# Altium schematic symbol library dungvh03-CERN_Logic.SchLib: 486 symbols (part 10 of 54)
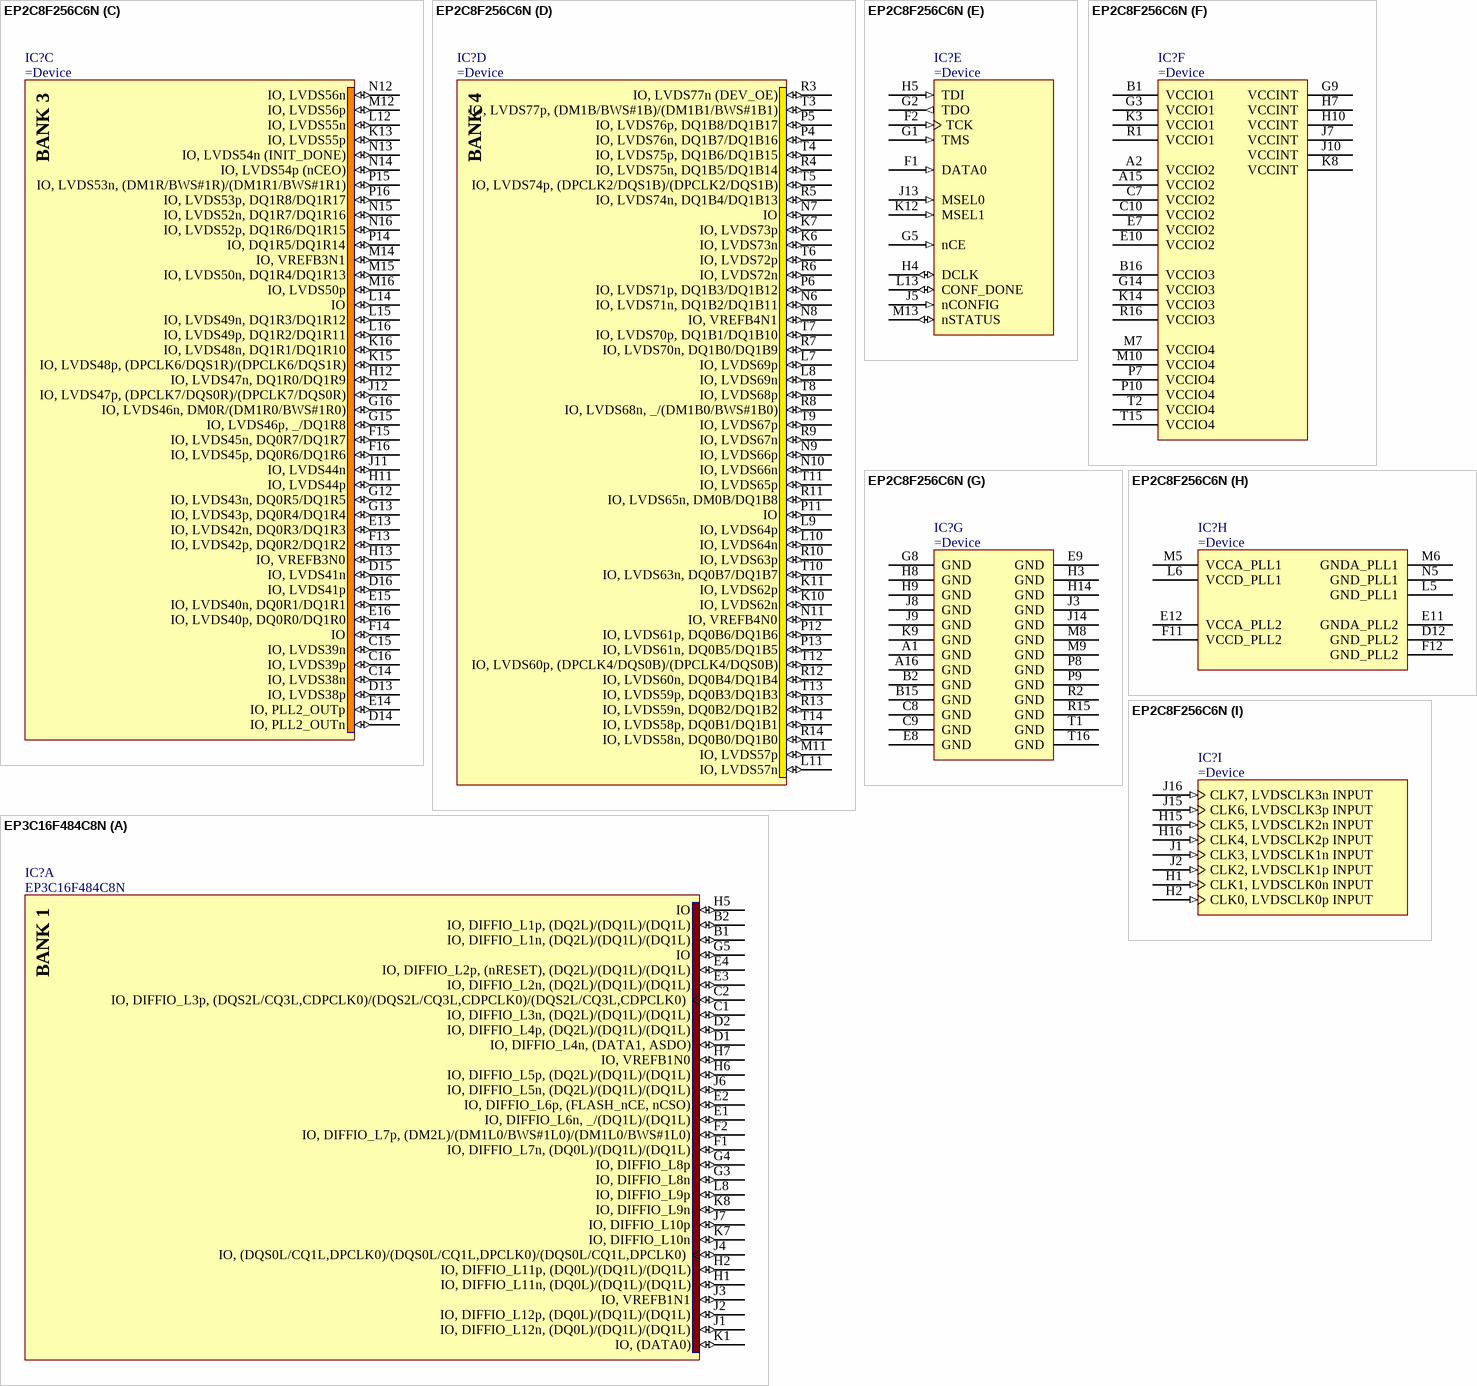
[diagram p270: symbols EP2C8F256C6N to EP3C16F484C8N]

## EP2C8F256C6N
designator IC?
Cyclone II Family, 1.2V FPGA, 182 I/O Pins, 2 PLLs, 256-Pin FBGA, Speed Grade 6, Commercial Grade, Pb-Free
part A pins: C1 IO, LVDS15p (CRC_ERROR) (io), C2 IO, LVDS15n (CLKUSR) (io), C3 IO, (ASDO) (io), D1 IO, LVDS11n, DQ0L2/DQ1L2 (io), D2 IO, LVDS11p (io), D3 IO, LVDS12p, DQ0L0/DQ1L0 (io), D4 IO, LVDS12n, DQ0L1/DQ1L1 (io), D5 IO, LVDS14p (io), E1 IO, LVDS8p, (DPCLK0/DQS0L)/(DPCLK0/DQS0L) (io), E2 IO, LVDS8n, DQ0L5/DQ1L5 (io), E3 IO, LVDS10p, DQ0L3/DQ1L3 (io), E4 IO, LVDS10n, DQ0L4/DQ1L4 (io), E5 IO, LVDS14n (io), F3 IO, VREFB1N0 (io), F4 IO, (nCSO) (io), F5 IO, LVDS13p (io), G4 IO (io), H6 IO, LVDS9n (io), J4 IO, VREFB1N1 (io), J6 IO, LVDS9p (io), K1 IO, LVDS7n, DQ0L6/DQ1L6 (io), K2 IO, LVDS7p, (DPCLK1/DQS1L)/(DPCLK1/DQS1L) (io), K4 IO, LVDS6p, DQ0L7/DQ1L7 (io), K5 IO, LVDS6n, _/DQ1L8 (io), L1 IO, LVDS5p, DM0L/(DM1L0/BWS#1L0) (io), L2 IO, LVDS5n, DQ1L0/DQ1L9 (io), L3 IO, LVDS3n (io), L4 IO, PLL1_OUTp (io), M1 IO, LVDS4p (io), M2 IO, LVDS4n, DQ1L1/DQ1L10 (io), M3 IO, LVDS3p, DQ1L2/DQ1L11 (io), M4 IO, PLL1_OUTn (io), N1 IO, LVDS2p, DQ1L3/DQ1L12 (io), N2 IO, LVDS2n, DQ1L4/DQ1L13 (io), N3 IO, LVDS0p, DQ1L7/DQ1L16 (io), N4 IO, LVDS0n, DQ1L8/DQ1L17 (io), P1 IO, LVDS1p, DQ1L5/DQ1L14 (io), P2 IO, LVDS1n, DQ1L6/DQ1L15 (io), P3 IO, (DM1L/BWS#1L)/(DM1L1/BWS#1L1) (io)
part B pins: A3 IO, LVDS17p, (DM1T/BWS#1T)/(DM1T1/BWS#1T1) (io), A4 IO, LVDS18p, DQ1T8/DQ1T17 (io), A5 IO, LVDS19p, (DPCLK10/DQS1T)/(DPCLK10/DQS1T) (io), A6 IO, LVDS23p (io), A7 IO, LVDS26n, DQ1T0/DQ1T9 (io), A8 IO, LVDS27n (io), A9 IO, LVDS28n (io), A10 IO, LVDS31p (io), A11 IO, LVDS33p, DQ0T7/DQ1T7 (io), A12 IO, LVDS34p, (DPCLK8/DQS0T)/(DPCLK8/DQS0T) (io), A13 IO, LVDS35p, DQ0T4/DQ1T4 (io), A14 IO, LVDS37p, DQ0T0/DQ1T0 (io), B3 IO, LVDS17n (DEV_CLRn) (io), B4 IO, LVDS18n, DQ1T7/DQ1T16 (io), B5 IO, LVDS19n, DQ1T6/DQ1T15 (io), B6 IO, LVDS23n, DQ1T1/DQ1T10 (io), B7 IO, LVDS26p (io), B8 IO, LVDS27p (io), B9 IO, LVDS28p (io), B10 IO, LVDS31n, _/DQ1T8 (io), B11 IO, LVDS33n, DQ0T6/DQ1T6 (io), B12 IO, LVDS34n, DQ0T5/DQ1T5 (io), B13 IO, LVDS35n, DQ0T3/DQ1T3 (io), B14 IO, LVDS37n (io), C4 IO, LVDS20p, DQ1T5/DQ1T14 (io), C5 IO, LVDS20n (io), C6 IO, LVDS21p, DQ1T4/DQ1T13 (io), C11 IO, VREFB2N0 (io), C12 IO, LVDS36p, DQ0T2/DQ1T2 (io), C13 IO, LVDS36n, DQ0T1/DQ1T1 (io), D6 IO, LVDS21n, DQ1T3/DQ1T12 (io), D7 IO, DQ1T2/DQ1T11 (io), D8 IO, VREFB2N1 (io), D9 IO (io), D10 IO, LVDS29p (io), D11 IO, LVDS29n, DM0T/(DM1T0/BWS#1T0) (io), E6 IO, LVDS16p (io), F6 IO, LVDS16n (io), F7 IO, LVDS25n (io), F8 IO, LVDS25p (io), F9 IO, LVDS30p (io), F10 IO, LVDS30n (io), G6 IO, LVDS22n (io), G7 IO, LVDS22p (io), G10 IO, LVDS32n (io), G11 IO, LVDS32p (io)
part C pins: C14 IO, LVDS38n (io), C15 IO, LVDS39n (io), C16 IO, LVDS39p (io), D13 IO, LVDS38p (io), D14 IO, PLL2_OUTn (io), D15 IO, LVDS41n (io), D16 IO, LVDS41p (io), E13 IO, LVDS42n, DQ0R3/DQ1R3 (io), E14 IO, PLL2_OUTp (io), E15 IO, LVDS40n, DQ0R1/DQ1R1 (io), E16 IO, LVDS40p, DQ0R0/DQ1R0 (io), F13 IO, LVDS42p, DQ0R2/DQ1R2 (io), F14 IO (io), F15 IO, LVDS45n, DQ0R7/DQ1R7 (io), F16 IO, LVDS45p, DQ0R6/DQ1R6 (io), G12 IO, LVDS43n, DQ0R5/DQ1R5 (io), G13 IO, LVDS43p, DQ0R4/DQ1R4 (io), G15 IO, LVDS46p, _/DQ1R8 (io), G16 IO, LVDS46n, DM0R/(DM1R0/BWS#1R0) (io), H11 IO, LVDS44p (io), H12 IO, LVDS47n, DQ1R0/DQ1R9 (io), H13 IO, VREFB3N0 (io), J11 IO, LVDS44n (io), J12 IO, LVDS47p, (DPCLK7/DQS0R)/(DPCLK7/DQS0R) (io), K13 IO, LVDS55p (io), K15 IO, LVDS48p, (DPCLK6/DQS1R)/(DPCLK6/DQS1R) (io), K16 IO, LVDS48n, DQ1R1/DQ1R10 (io), L12 IO, LVDS55n (io), L14 IO (io), L15 IO, LVDS49n, DQ1R3/DQ1R12 (io), L16 IO, LVDS49p, DQ1R2/DQ1R11 (io), M12 IO, LVDS56p (io), M14 IO, VREFB3N1 (io), M15 IO, LVDS50n, DQ1R4/DQ1R13 (io), M16 IO, LVDS50p (io), N12 IO, LVDS56n (io), N13 IO, LVDS54n (INIT_DONE) (io), N14 IO, LVDS54p (nCEO) (io), N15 IO, LVDS52n, DQ1R7/DQ1R16 (io), N16 IO, LVDS52p, DQ1R6/DQ1R15 (io), P14 IO, DQ1R5/DQ1R14 (io), P15 IO, LVDS53n, (DM1R/BWS#1R)/(DM1R1/BWS#1R1) (io), P16 IO, LVDS53p, DQ1R8/DQ1R17 (io)
part D pins: K6 IO, LVDS73n (io), K7 IO, LVDS73p (io), K10 IO, LVDS62n (io), K11 IO, LVDS62p (io), L7 IO, LVDS69p (io), L8 IO, LVDS69n (io), L9 IO, LVDS64p (io), L10 IO, LVDS64n (io), L11 IO, LVDS57n (io), M11 IO, LVDS57p (io), N6 IO, LVDS71n, DQ1B2/DQ1B11 (io), N7 IO (io), N8 IO, VREFB4N1 (io), N9 IO, LVDS66p (io), N10 IO, LVDS66n (io), N11 IO, VREFB4N0 (io), P4 IO, LVDS76n, DQ1B7/DQ1B16 (io), P5 IO, LVDS76p, DQ1B8/DQ1B17 (io), P6 IO, LVDS71p, DQ1B3/DQ1B12 (io), P11 IO (io), P12 IO, LVDS61p, DQ0B6/DQ1B6 (io), P13 IO, LVDS61n, DQ0B5/DQ1B5 (io), R3 IO, LVDS77n (DEV_OE) (io), R4 IO, LVDS75n, DQ1B5/DQ1B14 (io), R5 IO, LVDS74n, DQ1B4/DQ1B13 (io), R6 IO, LVDS72n (io), R7 IO, LVDS70n, DQ1B0/DQ1B9 (io), R8 IO, LVDS68n, _/(DM1B0/BWS#1B0) (io), R9 IO, LVDS67n (io), R10 IO, LVDS63p (io), R11 IO, LVDS65n, DM0B/DQ1B8 (io), R12 IO, LVDS60n, DQ0B4/DQ1B4 (io), R13 IO, LVDS59n, DQ0B2/DQ1B2 (io), R14 IO, LVDS58n, DQ0B0/DQ1B0 (io), T3 IO, LVDS77p, (DM1B/BWS#1B)/(DM1B1/BWS#1B1) (io), T4 IO, LVDS75p, DQ1B6/DQ1B15 (io), T5 IO, LVDS74p, (DPCLK2/DQS1B)/(DPCLK2/DQS1B) (io), T6 IO, LVDS72p (io), T7 IO, LVDS70p, DQ1B1/DQ1B10 (io), T8 IO, LVDS68p (io), T9 IO, LVDS67p (io), T10 IO, LVDS63n, DQ0B7/DQ1B7 (io), T11 IO, LVDS65p (io), T12 IO, LVDS60p, (DPCLK4/DQS0B)/(DPCLK4/DQS0B) (io), T13 IO, LVDS59p, DQ0B3/DQ1B3 (io), T14 IO, LVDS58p, DQ0B1/DQ1B1 (io)
part E pins: F1 DATA0 (in), F2 TCK (in), G1 TMS (in), G2 TDO (out), G5 nCE (in), H4 DCLK (io), H5 TDI (in), J5 nCONFIG (in), J13 MSEL0 (in), K12 MSEL1 (in), L13 CONF_DONE (io), M13 nSTATUS (io)
part F pins: A2 VCCIO2 (power), A15 VCCIO2 (power), B1 VCCIO1 (power), B16 VCCIO3 (power), C7 VCCIO2 (power), C10 VCCIO2 (power), E7 VCCIO2 (power), E10 VCCIO2 (power), G3 VCCIO1 (power), G9 VCCINT (power), G14 VCCIO3 (power), H7 VCCINT (power), H10 VCCINT (power), J7 VCCINT (power), J10 VCCINT (power), K3 VCCIO1 (power), K8 VCCINT (power), K14 VCCIO3 (power), M7 VCCIO4 (power), M10 VCCIO4 (power), P7 VCCIO4 (power), P10 VCCIO4 (power), R1 VCCIO1 (power), R16 VCCIO3 (power), T2 VCCIO4 (power), T15 VCCIO4 (power)
part G pins: A1 GND (power), A16 GND (power), B2 GND (power), B15 GND (power), C8 GND (power), C9 GND (power), E8 GND (power), E9 GND (power), G8 GND (power), H3 GND (power), H8 GND (power), H9 GND (power), H14 GND (power), J3 GND (power), J8 GND (power), J9 GND (power), J14 GND (power), K9 GND (power), M8 GND (power), M9 GND (power), P8 GND (power), P9 GND (power), R2 GND (power), R15 GND (power), T1 GND (power), T16 GND (power)
part H pins: D12 GND_PLL2 (power), E11 GNDA_PLL2 (power), E12 VCCA_PLL2 (power), F11 VCCD_PLL2 (power), F12 GND_PLL2 (power), L5 GND_PLL1 (power), L6 VCCD_PLL1 (power), M5 VCCA_PLL1 (power), M6 GNDA_PLL1 (power), N5 GND_PLL1 (power)
part I pins: H1 CLK1, LVDSCLK0n INPUT (in), H2 CLK0, LVDSCLK0p INPUT (in), H15 CLK5, LVDSCLK2n INPUT (in), H16 CLK4, LVDSCLK2p INPUT (in), J1 CLK3, LVDSCLK1n INPUT (in), J2 CLK2, LVDSCLK1p INPUT (in), J15 CLK6, LVDSCLK3p INPUT (in), J16 CLK7, LVDSCLK3n INPUT (in)
part A text: BANK 1
part B text: BANK 2
part C text: BANK 3
part D text: BANK 4

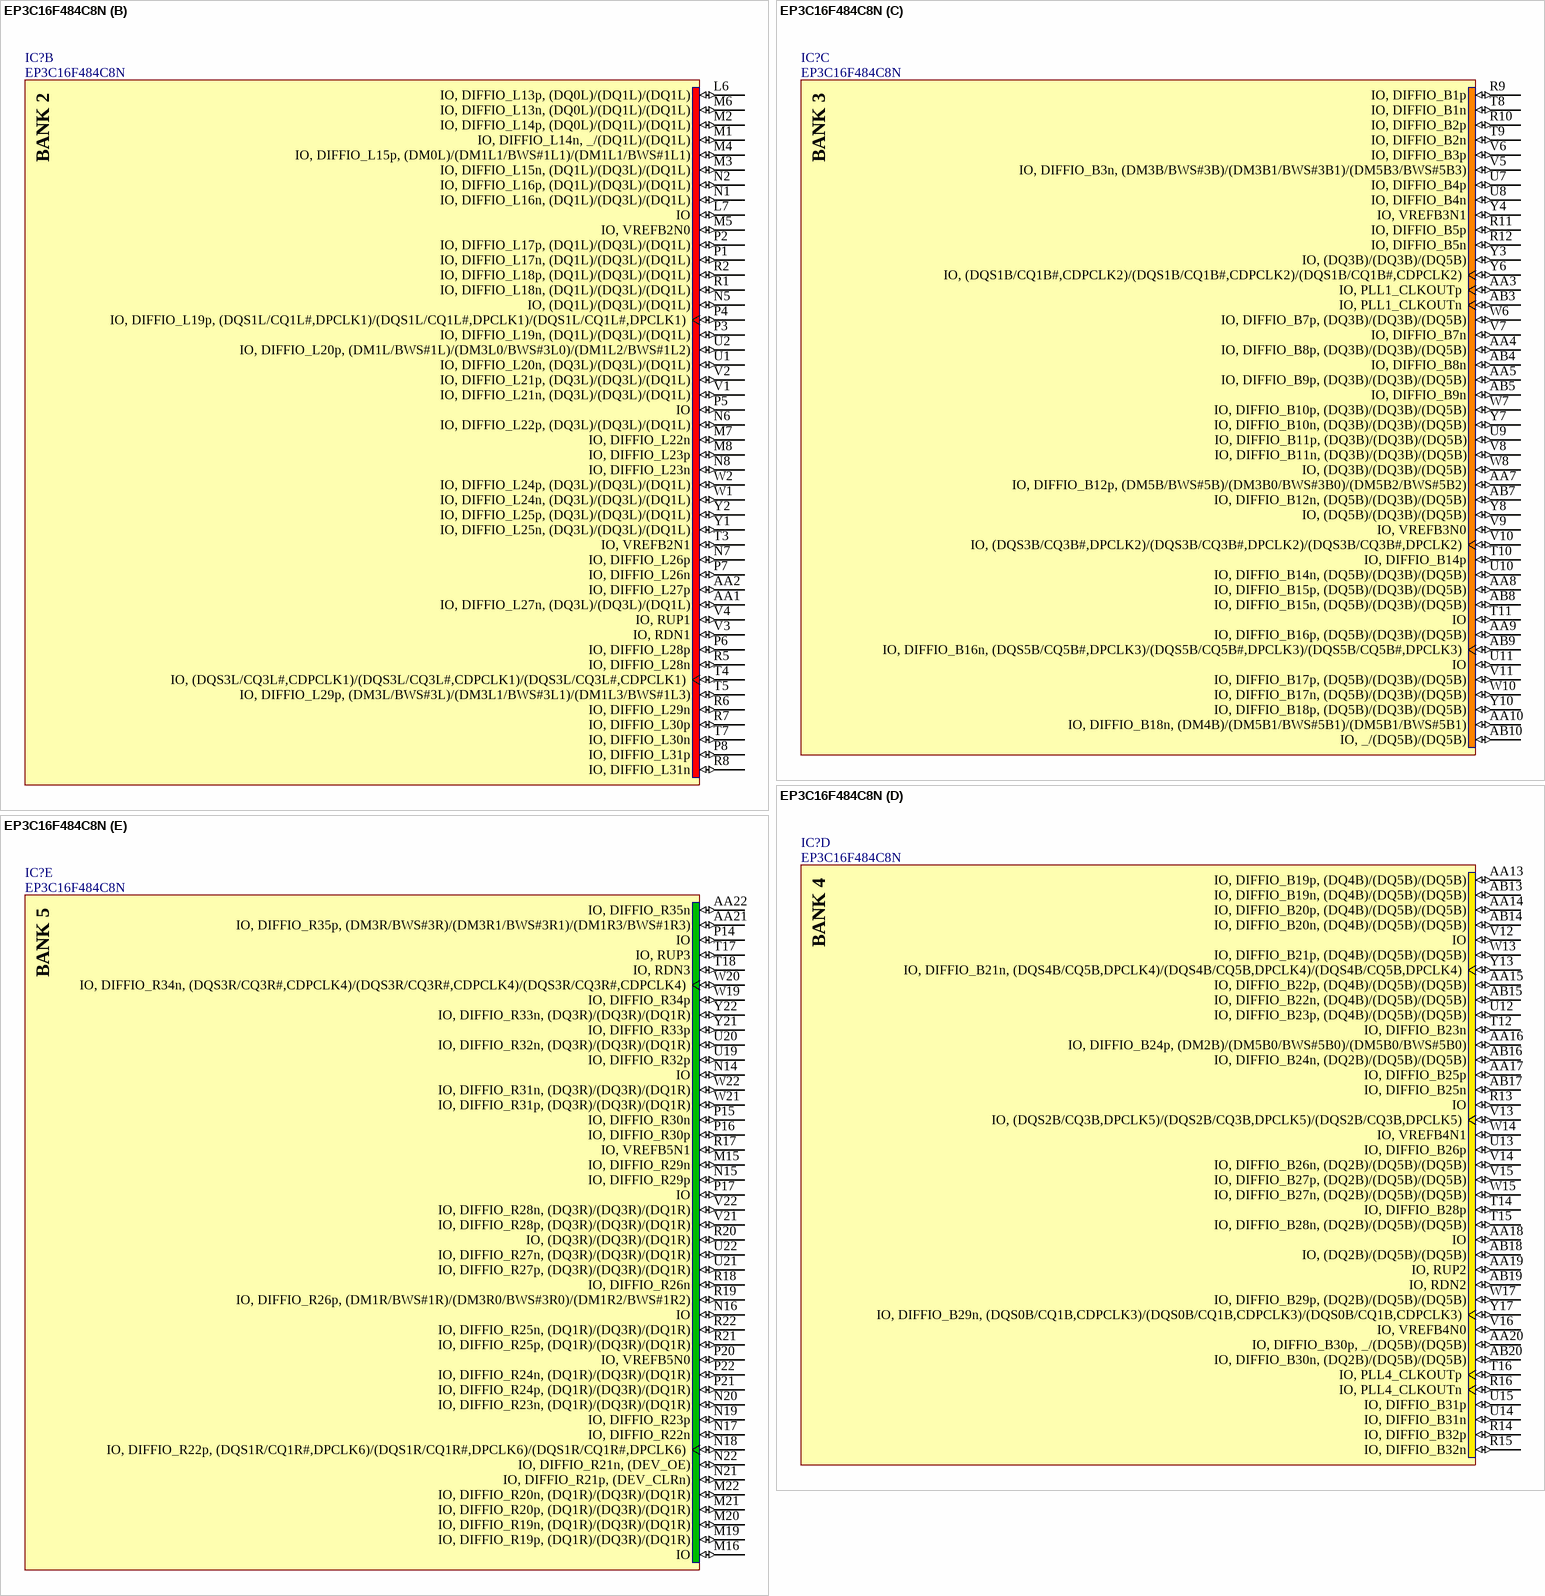
[diagram p53: symbol EP3C16F484C8N]

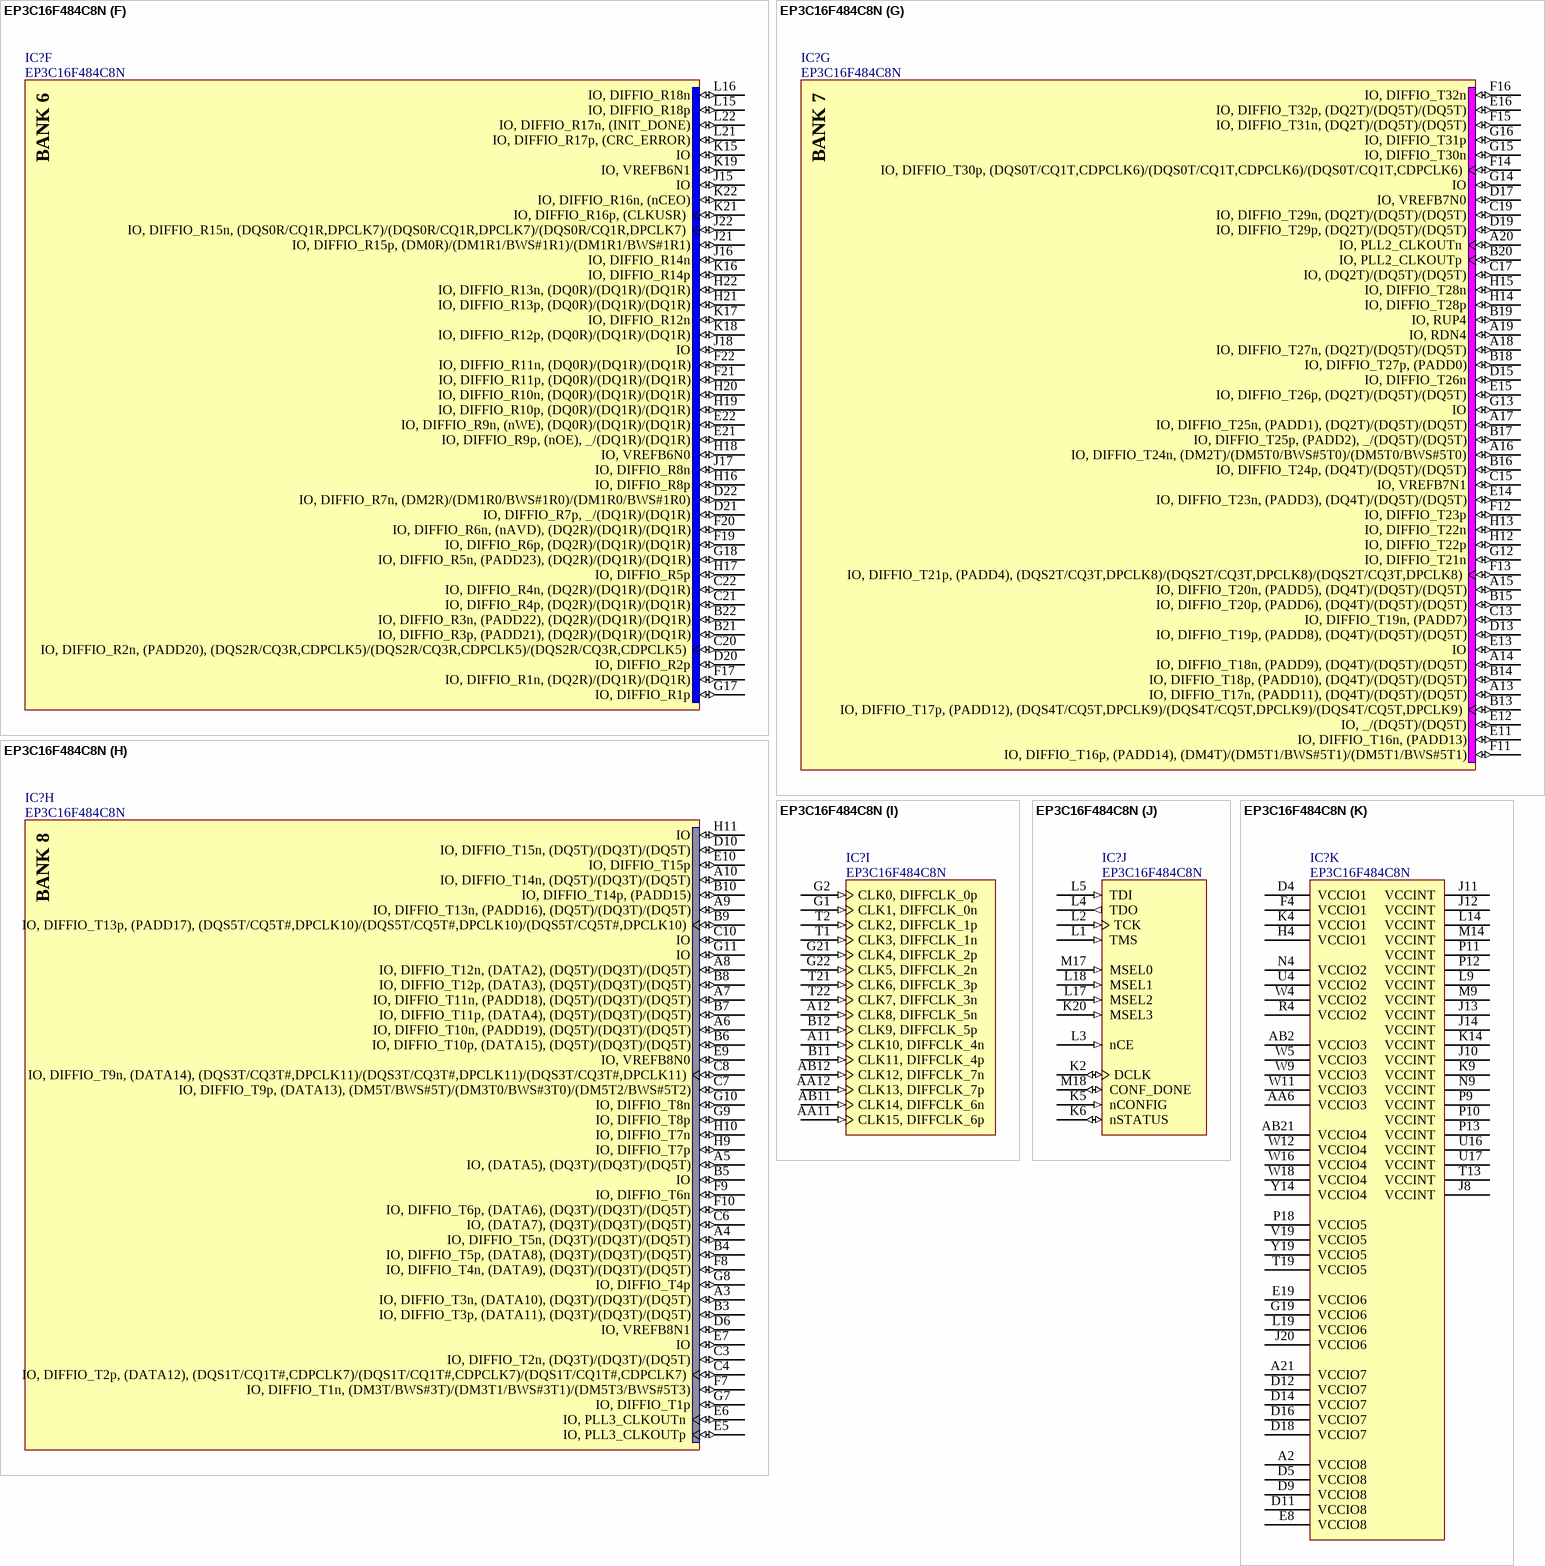
[diagram p54: symbol EP3C16F484C8N]

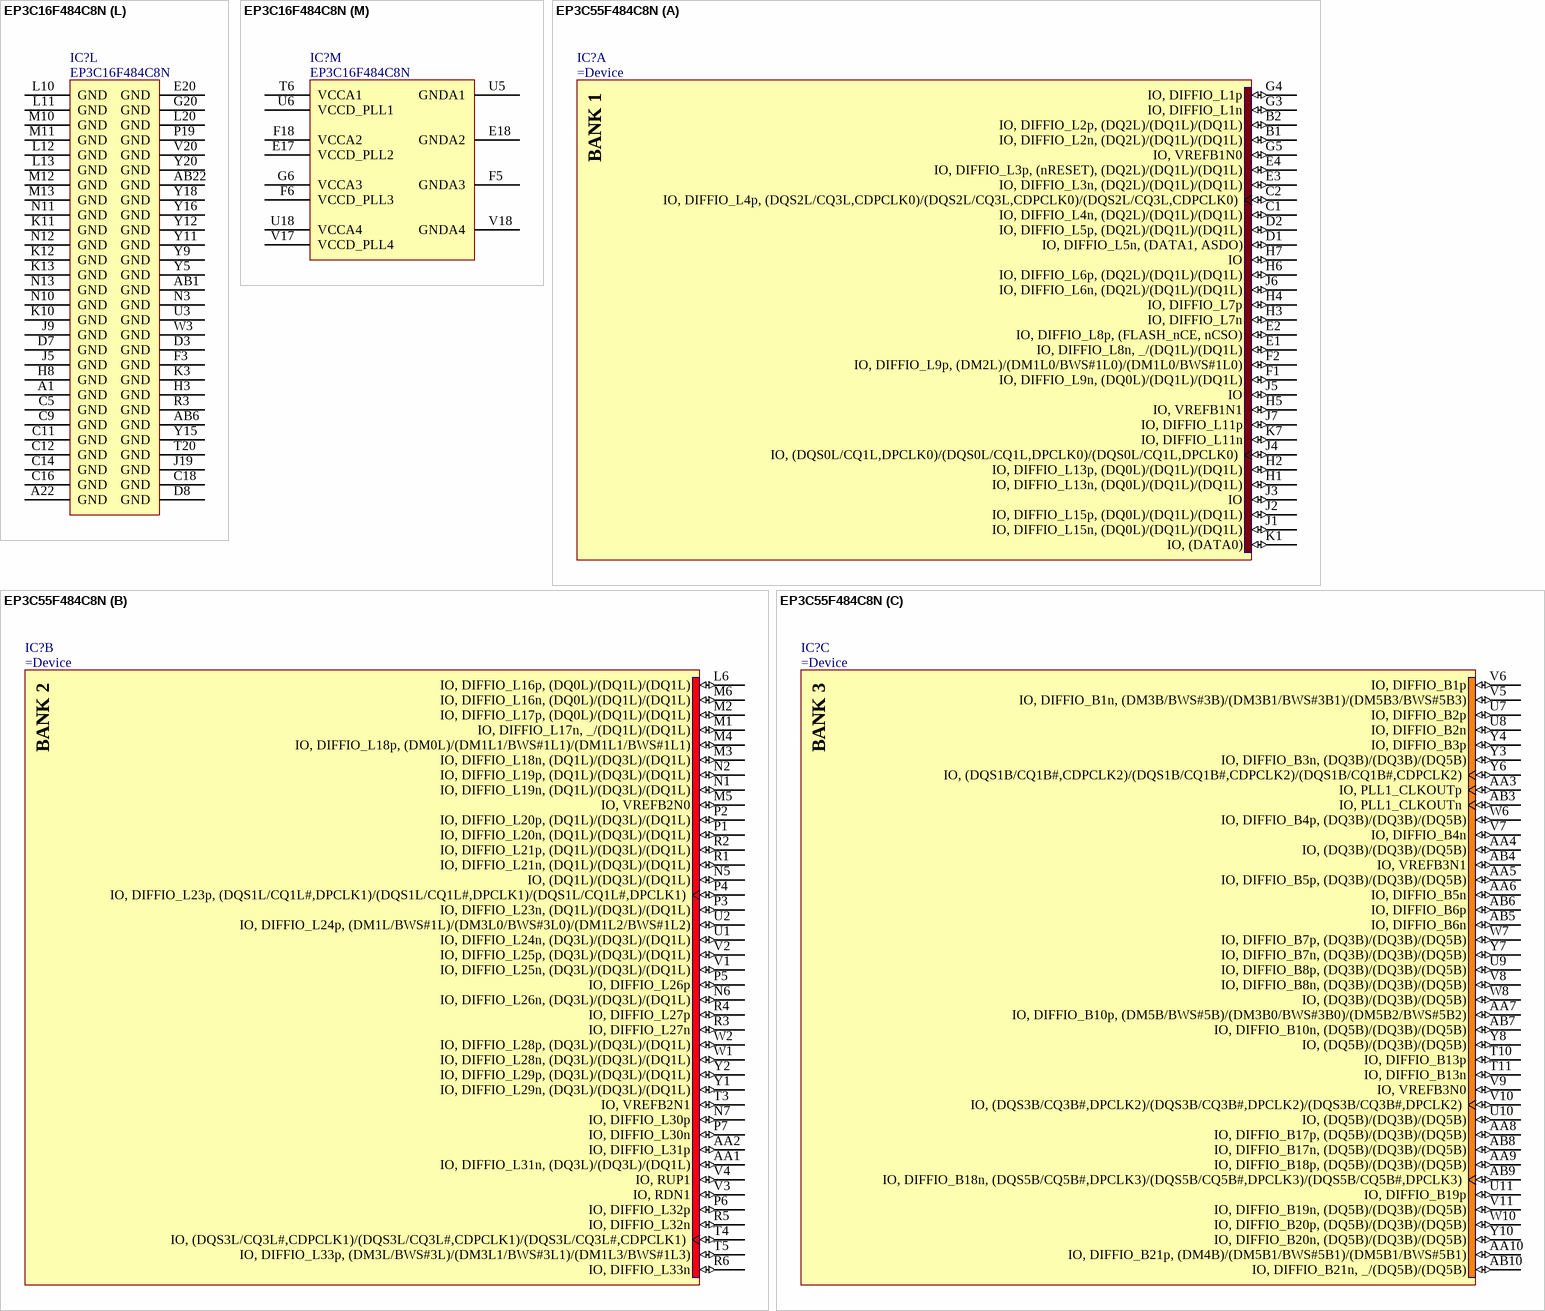
[diagram p55: symbols EP3C16F484C8N to EP3C55F484C8N]

## EP3C16F484C8N
designator IC?
Cyclone III Family FPGA, 346 I/O Pins, 4 PLLs, 484-Pin FBGA, Speed Grade 8, Commercial Grade
part A pins: B1 IO, DIFFIO_L1n, (DQ2L)/(DQ1L)/(DQ1L) (io), B2 IO, DIFFIO_L1p, (DQ2L)/(DQ1L)/(DQ1L) (io), C1 IO, DIFFIO_L3n, (DQ2L)/(DQ1L)/(DQ1L) (io), C2 IO, DIFFIO_L3p, (DQS2L/CQ3L,CDPCLK0)/(DQS2L/CQ3L,CDPCLK0)/(DQS2L/CQ3L,CDPCLK0) (io), D1 IO, DIFFIO_L4n, (DATA1, ASDO) (io), D2 IO, DIFFIO_L4p, (DQ2L)/(DQ1L)/(DQ1L) (io), E1 IO, DIFFIO_L6n, _/(DQ1L)/(DQ1L) (io), E2 IO, DIFFIO_L6p, (FLASH_nCE, nCSO) (io), E3 IO, DIFFIO_L2n, (DQ2L)/(DQ1L)/(DQ1L) (io), E4 IO, DIFFIO_L2p, (nRESET), (DQ2L)/(DQ1L)/(DQ1L) (io), F1 IO, DIFFIO_L7n, (DQ0L)/(DQ1L)/(DQ1L) (io), F2 IO, DIFFIO_L7p, (DM2L)/(DM1L0/BWS#1L0)/(DM1L0/BWS#1L0) (io), G3 IO, DIFFIO_L8n (io), G4 IO, DIFFIO_L8p (io), G5 IO (io), H1 IO, DIFFIO_L11n, (DQ0L)/(DQ1L)/(DQ1L) (io), H2 IO, DIFFIO_L11p, (DQ0L)/(DQ1L)/(DQ1L) (io), H5 IO (io), H6 IO, DIFFIO_L5p, (DQ2L)/(DQ1L)/(DQ1L) (io), H7 IO, VREFB1N0 (io), J1 IO, DIFFIO_L12n, (DQ0L)/(DQ1L)/(DQ1L) (io), J2 IO, DIFFIO_L12p, (DQ0L)/(DQ1L)/(DQ1L) (io), J3 IO, VREFB1N1 (io), J4 IO, (DQS0L/CQ1L,DPCLK0)/(DQS0L/CQ1L,DPCLK0)/(DQS0L/CQ1L,DPCLK0) (io), J6 IO, DIFFIO_L5n, (DQ2L)/(DQ1L)/(DQ1L) (io), J7 IO, DIFFIO_L10p (io), K1 IO, (DATA0) (io), K7 IO, DIFFIO_L10n (io), K8 IO, DIFFIO_L9n (io), L8 IO, DIFFIO_L9p (io)
part B pins: AA1 IO, DIFFIO_L27n, (DQ3L)/(DQ3L)/(DQ1L) (io), AA2 IO, DIFFIO_L27p (io), L6 IO, DIFFIO_L13p, (DQ0L)/(DQ1L)/(DQ1L) (io), L7 IO (io), M1 IO, DIFFIO_L14n, _/(DQ1L)/(DQ1L) (io), M2 IO, DIFFIO_L14p, (DQ0L)/(DQ1L)/(DQ1L) (io), M3 IO, DIFFIO_L15n, (DQ1L)/(DQ3L)/(DQ1L) (io), M4 IO, DIFFIO_L15p, (DM0L)/(DM1L1/BWS#1L1)/(DM1L1/BWS#1L1) (io), M5 IO, VREFB2N0 (io), M6 IO, DIFFIO_L13n, (DQ0L)/(DQ1L)/(DQ1L) (io), M7 IO, DIFFIO_L22n (io), M8 IO, DIFFIO_L23p (io), N1 IO, DIFFIO_L16n, (DQ1L)/(DQ3L)/(DQ1L) (io), N2 IO, DIFFIO_L16p, (DQ1L)/(DQ3L)/(DQ1L) (io), N5 IO, (DQ1L)/(DQ3L)/(DQ1L) (io), N6 IO, DIFFIO_L22p, (DQ3L)/(DQ3L)/(DQ1L) (io), N7 IO, DIFFIO_L26p (io), N8 IO, DIFFIO_L23n (io), P1 IO, DIFFIO_L17n, (DQ1L)/(DQ3L)/(DQ1L) (io), P2 IO, DIFFIO_L17p, (DQ1L)/(DQ3L)/(DQ1L) (io), P3 IO, DIFFIO_L19n, (DQ1L)/(DQ3L)/(DQ1L) (io), P4 IO, DIFFIO_L19p, (DQS1L/CQ1L#,DPCLK1)/(DQS1L/CQ1L#,DPCLK1)/(DQS1L/CQ1L#,DPCLK1) (io), P5 IO (io), P6 IO, DIFFIO_L28p (io), P7 IO, DIFFIO_L26n (io), P8 IO, DIFFIO_L31p (io), R1 IO, DIFFIO_L18n, (DQ1L)/(DQ3L)/(DQ1L) (io), R2 IO, DIFFIO_L18p, (DQ1L)/(DQ3L)/(DQ1L) (io), R5 IO, DIFFIO_L28n (io), R6 IO, DIFFIO_L29n (io), R7 IO, DIFFIO_L30p (io), R8 IO, DIFFIO_L31n (io), T3 IO, VREFB2N1 (io), T4 IO, (DQS3L/CQ3L#,CDPCLK1)/(DQS3L/CQ3L#,CDPCLK1)/(DQS3L/CQ3L#,CDPCLK1) (io), T5 IO, DIFFIO_L29p, (DM3L/BWS#3L)/(DM3L1/BWS#3L1)/(DM1L3/BWS#1L3) (io), T7 IO, DIFFIO_L30n (io), U1 IO, DIFFIO_L20n, (DQ3L)/(DQ3L)/(DQ1L) (io), U2 IO, DIFFIO_L20p, (DM1L/BWS#1L)/(DM3L0/BWS#3L0)/(DM1L2/BWS#1L2) (io), V1 IO, DIFFIO_L21n, (DQ3L)/(DQ3L)/(DQ1L) (io), V2 IO, DIFFIO_L21p, (DQ3L)/(DQ3L)/(DQ1L) (io), V3 IO, RDN1 (io), V4 IO, RUP1 (io), W1 IO, DIFFIO_L24n, (DQ3L)/(DQ3L)/(DQ1L) (io), W2 IO, DIFFIO_L24p, (DQ3L)/(DQ3L)/(DQ1L) (io), Y1 IO, DIFFIO_L25n, (DQ3L)/(DQ3L)/(DQ1L) (io), Y2 IO, DIFFIO_L25p, (DQ3L)/(DQ3L)/(DQ1L) (io)
part C pins: AA3 IO, PLL1_CLKOUTp (io), AA4 IO, DIFFIO_B8p, (DQ3B)/(DQ3B)/(DQ5B) (io), AA5 IO, DIFFIO_B9p, (DQ3B)/(DQ3B)/(DQ5B) (io), AA7 IO, DIFFIO_B12p, (DM5B/BWS#5B)/(DM3B0/BWS#3B0)/(DM5B2/BWS#5B2) (io), AA8 IO, DIFFIO_B15p, (DQ5B)/(DQ3B)/(DQ5B) (io), AA9 IO, DIFFIO_B16p, (DQ5B)/(DQ3B)/(DQ5B) (io), AA10 IO, DIFFIO_B18n, (DM4B)/(DM5B1/BWS#5B1)/(DM5B1/BWS#5B1) (io), AB3 IO, PLL1_CLKOUTn (io), AB4 IO, DIFFIO_B8n (io), AB5 IO, DIFFIO_B9n (io), AB7 IO, DIFFIO_B12n, (DQ5B)/(DQ3B)/(DQ5B) (io), AB8 IO, DIFFIO_B15n, (DQ5B)/(DQ3B)/(DQ5B) (io), AB9 IO, DIFFIO_B16n, (DQS5B/CQ5B#,DPCLK3)/(DQS5B/CQ5B#,DPCLK3)/(DQS5B/CQ5B#,DPCLK3) (io), AB10 IO, _/(DQ5B)/(DQ5B) (io), R9 IO, DIFFIO_B1p (io), R10 IO, DIFFIO_B2p (io), R11 IO, DIFFIO_B5p (io), R12 IO, DIFFIO_B5n (io), T8 IO, DIFFIO_B1n (io), T9 IO, DIFFIO_B2n (io), T10 IO, DIFFIO_B14p (io), T11 IO (io), U7 IO, DIFFIO_B4p (io), U8 IO, DIFFIO_B4n (io), U9 IO, DIFFIO_B11p, (DQ3B)/(DQ3B)/(DQ5B) (io), U10 IO, DIFFIO_B14n, (DQ5B)/(DQ3B)/(DQ5B) (io), U11 IO (io), V5 IO, DIFFIO_B3n, (DM3B/BWS#3B)/(DM3B1/BWS#3B1)/(DM5B3/BWS#5B3) (io), V6 IO, DIFFIO_B3p (io), V7 IO, DIFFIO_B7n (io), V8 IO, DIFFIO_B11n, (DQ3B)/(DQ3B)/(DQ5B) (io), V9 IO, VREFB3N0 (io), V10 IO, (DQS3B/CQ3B#,DPCLK2)/(DQS3B/CQ3B#,DPCLK2)/(DQS3B/CQ3B#,DPCLK2) (io), V11 IO, DIFFIO_B17p, (DQ5B)/(DQ3B)/(DQ5B) (io), W6 IO, DIFFIO_B7p, (DQ3B)/(DQ3B)/(DQ5B) (io), W7 IO, DIFFIO_B10p, (DQ3B)/(DQ3B)/(DQ5B) (io), W8 IO, (DQ3B)/(DQ3B)/(DQ5B) (io), W10 IO, DIFFIO_B17n, (DQ5B)/(DQ3B)/(DQ5B) (io), Y3 IO, (DQ3B)/(DQ3B)/(DQ5B) (io), Y4 IO, VREFB3N1 (io), Y6 IO, (DQS1B/CQ1B#,CDPCLK2)/(DQS1B/CQ1B#,CDPCLK2)/(DQS1B/CQ1B#,CDPCLK2) (io), Y7 IO, DIFFIO_B10n, (DQ3B)/(DQ3B)/(DQ5B) (io), Y8 IO, (DQ5B)/(DQ3B)/(DQ5B) (io), Y10 IO, DIFFIO_B18p, (DQ5B)/(DQ3B)/(DQ5B) (io)
part D pins: AA13 IO, DIFFIO_B19p, (DQ4B)/(DQ5B)/(DQ5B) (io), AA14 IO, DIFFIO_B20p, (DQ4B)/(DQ5B)/(DQ5B) (io), AA15 IO, DIFFIO_B22p, (DQ4B)/(DQ5B)/(DQ5B) (io), AA16 IO, DIFFIO_B24p, (DM2B)/(DM5B0/BWS#5B0)/(DM5B0/BWS#5B0) (io), AA17 IO, DIFFIO_B25p (io), AA18 IO (io), AA19 IO, RUP2 (io), AA20 IO, DIFFIO_B30p, _/(DQ5B)/(DQ5B) (io), AB13 IO, DIFFIO_B19n, (DQ4B)/(DQ5B)/(DQ5B) (io), AB14 IO, DIFFIO_B20n, (DQ4B)/(DQ5B)/(DQ5B) (io), AB15 IO, DIFFIO_B22n, (DQ4B)/(DQ5B)/(DQ5B) (io), AB16 IO, DIFFIO_B24n, (DQ2B)/(DQ5B)/(DQ5B) (io), AB17 IO, DIFFIO_B25n (io), AB18 IO, (DQ2B)/(DQ5B)/(DQ5B) (io), AB19 IO, RDN2 (io), AB20 IO, DIFFIO_B30n, (DQ2B)/(DQ5B)/(DQ5B) (io), R13 IO (io), R14 IO, DIFFIO_B32p (io), R15 IO, DIFFIO_B32n (io), R16 IO, PLL4_CLKOUTn (io), T12 IO, DIFFIO_B23n (io), T14 IO, DIFFIO_B28p (io), T15 IO, DIFFIO_B28n, (DQ2B)/(DQ5B)/(DQ5B) (io), T16 IO, PLL4_CLKOUTp (io), U12 IO, DIFFIO_B23p, (DQ4B)/(DQ5B)/(DQ5B) (io), U13 IO, DIFFIO_B26p (io), U14 IO, DIFFIO_B31n (io), U15 IO, DIFFIO_B31p (io), V12 IO (io), V13 IO, (DQS2B/CQ3B,DPCLK5)/(DQS2B/CQ3B,DPCLK5)/(DQS2B/CQ3B,DPCLK5) (io), V14 IO, DIFFIO_B26n, (DQ2B)/(DQ5B)/(DQ5B) (io), V15 IO, DIFFIO_B27p, (DQ2B)/(DQ5B)/(DQ5B) (io), V16 IO, VREFB4N0 (io), W13 IO, DIFFIO_B21p, (DQ4B)/(DQ5B)/(DQ5B) (io), W14 IO, VREFB4N1 (io), W15 IO, DIFFIO_B27n, (DQ2B)/(DQ5B)/(DQ5B) (io), W17 IO, DIFFIO_B29p, (DQ2B)/(DQ5B)/(DQ5B) (io), Y13 IO, DIFFIO_B21n, (DQS4B/CQ5B,DPCLK4)/(DQS4B/CQ5B,DPCLK4)/(DQS4B/CQ5B,DPCLK4) (io), Y17 IO, DIFFIO_B29n, (DQS0B/CQ1B,CDPCLK3)/(DQS0B/CQ1B,CDPCLK3)/(DQS0B/CQ1B,CDPCLK3) (io)
part E pins: AA21 IO, DIFFIO_R35p, (DM3R/BWS#3R)/(DM3R1/BWS#3R1)/(DM1R3/BWS#1R3) (io), AA22 IO, DIFFIO_R35n (io), M15 IO, DIFFIO_R29n (io), M16 IO (io), M19 IO, DIFFIO_R19p, (DQ1R)/(DQ3R)/(DQ1R) (io), M20 IO, DIFFIO_R19n, (DQ1R)/(DQ3R)/(DQ1R) (io), M21 IO, DIFFIO_R20p, (DQ1R)/(DQ3R)/(DQ1R) (io), M22 IO, DIFFIO_R20n, (DQ1R)/(DQ3R)/(DQ1R) (io), N14 IO (io), N15 IO, DIFFIO_R29p (io), N16 IO (io), N17 IO, DIFFIO_R22n (io), N18 IO, DIFFIO_R22p, (DQS1R/CQ1R#,DPCLK6)/(DQS1R/CQ1R#,DPCLK6)/(DQS1R/CQ1R#,DPCLK6) (io), N19 IO, DIFFIO_R23p (io), N20 IO, DIFFIO_R23n, (DQ1R)/(DQ3R)/(DQ1R) (io), N21 IO, DIFFIO_R21p, (DEV_CLRn) (io), N22 IO, DIFFIO_R21n, (DEV_OE) (io), P14 IO (io), P15 IO, DIFFIO_R30n (io), P16 IO, DIFFIO_R30p (io), P17 IO (io), P20 IO, VREFB5N0 (io), P21 IO, DIFFIO_R24p, (DQ1R)/(DQ3R)/(DQ1R) (io), P22 IO, DIFFIO_R24n, (DQ1R)/(DQ3R)/(DQ1R) (io), R17 IO, VREFB5N1 (io), R18 IO, DIFFIO_R26n (io), R19 IO, DIFFIO_R26p, (DM1R/BWS#1R)/(DM3R0/BWS#3R0)/(DM1R2/BWS#1R2) (io), R20 IO, (DQ3R)/(DQ3R)/(DQ1R) (io), R21 IO, DIFFIO_R25p, (DQ1R)/(DQ3R)/(DQ1R) (io), R22 IO, DIFFIO_R25n, (DQ1R)/(DQ3R)/(DQ1R) (io), T17 IO, RUP3 (io), T18 IO, RDN3 (io), U19 IO, DIFFIO_R32p (io), U20 IO, DIFFIO_R32n, (DQ3R)/(DQ3R)/(DQ1R) (io), U21 IO, DIFFIO_R27p, (DQ3R)/(DQ3R)/(DQ1R) (io), U22 IO, DIFFIO_R27n, (DQ3R)/(DQ3R)/(DQ1R) (io), V21 IO, DIFFIO_R28p, (DQ3R)/(DQ3R)/(DQ1R) (io), V22 IO, DIFFIO_R28n, (DQ3R)/(DQ3R)/(DQ1R) (io), W19 IO, DIFFIO_R34p (io), W20 IO, DIFFIO_R34n, (DQS3R/CQ3R#,CDPCLK4)/(DQS3R/CQ3R#,CDPCLK4)/(DQS3R/CQ3R#,CDPCLK4) (io), W21 IO, DIFFIO_R31p, (DQ3R)/(DQ3R)/(DQ1R) (io), W22 IO, DIFFIO_R31n, (DQ3R)/(DQ3R)/(DQ1R) (io), Y21 IO, DIFFIO_R33p (io), Y22 IO, DIFFIO_R33n, (DQ3R)/(DQ3R)/(DQ1R) (io)
part F pins: B21 IO, DIFFIO_R3p, (PADD21), (DQ2R)/(DQ1R)/(DQ1R) (io), B22 IO, DIFFIO_R3n, (PADD22), (DQ2R)/(DQ1R)/(DQ1R) (io), C20 IO, DIFFIO_R2n, (PADD20), (DQS2R/CQ3R,CDPCLK5)/(DQS2R/CQ3R,CDPCLK5)/(DQS2R/CQ3R,CDPCLK5) (io), C21 IO, DIFFIO_R4p, (DQ2R)/(DQ1R)/(DQ1R) (io), C22 IO, DIFFIO_R4n, (DQ2R)/(DQ1R)/(DQ1R) (io), D20 IO, DIFFIO_R2p (io), D21 IO, DIFFIO_R7p, _/(DQ1R)/(DQ1R) (io), D22 IO, DIFFIO_R7n, (DM2R)/(DM1R0/BWS#1R0)/(DM1R0/BWS#1R0) (io), E21 IO, DIFFIO_R9p, (nOE), _/(DQ1R)/(DQ1R) (io), E22 IO, DIFFIO_R9n, (nWE), (DQ0R)/(DQ1R)/(DQ1R) (io), F17 IO, DIFFIO_R1n, (DQ2R)/(DQ1R)/(DQ1R) (io), F19 IO, DIFFIO_R6p, (DQ2R)/(DQ1R)/(DQ1R) (io), F20 IO, DIFFIO_R6n, (nAVD), (DQ2R)/(DQ1R)/(DQ1R) (io), F21 IO, DIFFIO_R11p, (DQ0R)/(DQ1R)/(DQ1R) (io), F22 IO, DIFFIO_R11n, (DQ0R)/(DQ1R)/(DQ1R) (io), G17 IO, DIFFIO_R1p (io), G18 IO, DIFFIO_R5n, (PADD23), (DQ2R)/(DQ1R)/(DQ1R) (io), H16 IO, DIFFIO_R8p (io), H17 IO, DIFFIO_R5p (io), H18 IO, VREFB6N0 (io), H19 IO, DIFFIO_R10p, (DQ0R)/(DQ1R)/(DQ1R) (io), H20 IO, DIFFIO_R10n, (DQ0R)/(DQ1R)/(DQ1R) (io), H21 IO, DIFFIO_R13p, (DQ0R)/(DQ1R)/(DQ1R) (io), H22 IO, DIFFIO_R13n, (DQ0R)/(DQ1R)/(DQ1R) (io), J15 IO (io), J16 IO, DIFFIO_R14n (io), J17 IO, DIFFIO_R8n (io), J18 IO (io), J21 IO, DIFFIO_R15p, (DM0R)/(DM1R1/BWS#1R1)/(DM1R1/BWS#1R1) (io), J22 IO, DIFFIO_R15n, (DQS0R/CQ1R,DPCLK7)/(DQS0R/CQ1R,DPCLK7)/(DQS0R/CQ1R,DPCLK7) (io), K15 IO (io), K16 IO, DIFFIO_R14p (io), K17 IO, DIFFIO_R12n (io), K18 IO, DIFFIO_R12p, (DQ0R)/(DQ1R)/(DQ1R) (io), K19 IO, VREFB6N1 (io), K21 IO, DIFFIO_R16p, (CLKUSR) (io), K22 IO, DIFFIO_R16n, (nCEO) (io), L15 IO, DIFFIO_R18p (io), L16 IO, DIFFIO_R18n (io), L21 IO, DIFFIO_R17p, (CRC_ERROR) (io), L22 IO, DIFFIO_R17n, (INIT_DONE) (io)
part G pins: A13 IO, DIFFIO_T17n, (PADD11), (DQ4T)/(DQ5T)/(DQ5T) (io), A14 IO, DIFFIO_T18n, (PADD9), (DQ4T)/(DQ5T)/(DQ5T) (io), A15 IO, DIFFIO_T20n, (PADD5), (DQ4T)/(DQ5T)/(DQ5T) (io), A16 IO, DIFFIO_T24n, (DM2T)/(DM5T0/BWS#5T0)/(DM5T0/BWS#5T0) (io), A17 IO, DIFFIO_T25n, (PADD1), (DQ2T)/(DQ5T)/(DQ5T) (io), A18 IO, DIFFIO_T27n, (DQ2T)/(DQ5T)/(DQ5T) (io), A19 IO, RDN4 (io), A20 IO, PLL2_CLKOUTn (io), B13 IO, DIFFIO_T17p, (PADD12), (DQS4T/CQ5T,DPCLK9)/(DQS4T/CQ5T,DPCLK9)/(DQS4T/CQ5T,DPCLK9) (io), B14 IO, DIFFIO_T18p, (PADD10), (DQ4T)/(DQ5T)/(DQ5T) (io), B15 IO, DIFFIO_T20p, (PADD6), (DQ4T)/(DQ5T)/(DQ5T) (io), B16 IO, DIFFIO_T24p, (DQ4T)/(DQ5T)/(DQ5T) (io), B17 IO, DIFFIO_T25p, (PADD2), _/(DQ5T)/(DQ5T) (io), B18 IO, DIFFIO_T27p, (PADD0) (io), B19 IO, RUP4 (io), B20 IO, PLL2_CLKOUTp (io), C13 IO, DIFFIO_T19n, (PADD7) (io), C15 IO, VREFB7N1 (io), C17 IO, (DQ2T)/(DQ5T)/(DQ5T) (io), C19 IO, DIFFIO_T29n, (DQ2T)/(DQ5T)/(DQ5T) (io), D13 IO, DIFFIO_T19p, (PADD8), (DQ4T)/(DQ5T)/(DQ5T) (io), D15 IO, DIFFIO_T26n (io), D17 IO, VREFB7N0 (io), D19 IO, DIFFIO_T29p, (DQ2T)/(DQ5T)/(DQ5T) (io), E11 IO, DIFFIO_T16n, (PADD13) (io), E12 IO, _/(DQ5T)/(DQ5T) (io), E13 IO (io), E14 IO, DIFFIO_T23n, (PADD3), (DQ4T)/(DQ5T)/(DQ5T) (io), E15 IO, DIFFIO_T26p, (DQ2T)/(DQ5T)/(DQ5T) (io), E16 IO, DIFFIO_T32p, (DQ2T)/(DQ5T)/(DQ5T) (io), F11 IO, DIFFIO_T16p, (PADD14), (DM4T)/(DM5T1/BWS#5T1)/(DM5T1/BWS#5T1) (io), F12 IO, DIFFIO_T23p (io), F13 IO, DIFFIO_T21p, (PADD4), (DQS2T/CQ3T,DPCLK8)/(DQS2T/CQ3T,DPCLK8)/(DQS2T/CQ3T,DPCLK8) (io), F14 IO, DIFFIO_T30p, (DQS0T/CQ1T,CDPCLK6)/(DQS0T/CQ1T,CDPCLK6)/(DQS0T/CQ1T,CDPCLK6) (io), F15 IO, DIFFIO_T31n, (DQ2T)/(DQ5T)/(DQ5T) (io), F16 IO, DIFFIO_T32n (io), G12 IO, DIFFIO_T21n (io), G13 IO (io), G14 IO (io), G15 IO, DIFFIO_T30n (io), G16 IO, DIFFIO_T31p (io), H12 IO, DIFFIO_T22p (io), H13 IO, DIFFIO_T22n (io), H14 IO, DIFFIO_T28p (io), H15 IO, DIFFIO_T28n (io)
part H pins: A3 IO, DIFFIO_T3n, (DATA10), (DQ3T)/(DQ3T)/(DQ5T) (io), A4 IO, DIFFIO_T5n, (DQ3T)/(DQ3T)/(DQ5T) (io), A5 IO, (DATA5), (DQ3T)/(DQ3T)/(DQ5T) (io), A6 IO, DIFFIO_T10n, (PADD19), (DQ5T)/(DQ3T)/(DQ5T) (io), A7 IO, DIFFIO_T11n, (PADD18), (DQ5T)/(DQ3T)/(DQ5T) (io), A8 IO, DIFFIO_T12n, (DATA2), (DQ5T)/(DQ3T)/(DQ5T) (io), A9 IO, DIFFIO_T13n, (PADD16), (DQ5T)/(DQ3T)/(DQ5T) (io), A10 IO, DIFFIO_T14n, (DQ5T)/(DQ3T)/(DQ5T) (io), B3 IO, DIFFIO_T3p, (DATA11), (DQ3T)/(DQ3T)/(DQ5T) (io), B4 IO, DIFFIO_T5p, (DATA8), (DQ3T)/(DQ3T)/(DQ5T) (io), B5 IO (io), B6 IO, DIFFIO_T10p, (DATA15), (DQ5T)/(DQ3T)/(DQ5T) (io), B7 IO, DIFFIO_T11p, (DATA4), (DQ5T)/(DQ3T)/(DQ5T) (io), B8 IO, DIFFIO_T12p, (DATA3), (DQ5T)/(DQ3T)/(DQ5T) (io), B9 IO, DIFFIO_T13p, (PADD17), (DQS5T/CQ5T#,DPCLK10)/(DQS5T/CQ5T#,DPCLK10)/(DQS5T/CQ5T#,DPCLK10) (io), B10 IO, DIFFIO_T14p, (PADD15) (io), C3 IO, DIFFIO_T2n, (DQ3T)/(DQ3T)/(DQ5T) (io), C4 IO, DIFFIO_T2p, (DATA12), (DQS1T/CQ1T#,CDPCLK7)/(DQS1T/CQ1T#,CDPCLK7)/(DQS1T/CQ1T#,CDPCLK7) (io), C6 IO, (DATA7), (DQ3T)/(DQ3T)/(DQ5T) (io), C7 IO, DIFFIO_T9p, (DATA13), (DM5T/BWS#5T)/(DM3T0/BWS#3T0)/(DM5T2/BWS#5T2) (io), C8 IO, DIFFIO_T9n, (DATA14), (DQS3T/CQ3T#,DPCLK11)/(DQS3T/CQ3T#,DPCLK11)/(DQS3T/CQ3T#,DPCLK11) (io), C10 IO (io), D6 IO, VREFB8N1 (io), D10 IO, DIFFIO_T15n, (DQ5T)/(DQ3T)/(DQ5T) (io), E5 IO, PLL3_CLKOUTp (io), E6 IO, PLL3_CLKOUTn (io), E7 IO (io), E9 IO, VREFB8N0 (io), E10 IO, DIFFIO_T15p (io), F7 IO, DIFFIO_T1n, (DM3T/BWS#3T)/(DM3T1/BWS#3T1)/(DM5T3/BWS#5T3) (io), F8 IO, DIFFIO_T4n, (DATA9), (DQ3T)/(DQ3T)/(DQ5T) (io), F9 IO, DIFFIO_T6n (io), F10 IO, DIFFIO_T6p, (DATA6), (DQ3T)/(DQ3T)/(DQ5T) (io), G7 IO, DIFFIO_T1p (io), G8 IO, DIFFIO_T4p (io), G9 IO, DIFFIO_T8p (io), G10 IO, DIFFIO_T8n (io), G11 IO (io), H9 IO, DIFFIO_T7p (io), H10 IO, DIFFIO_T7n (io), H11 IO (io)
part I pins: A11 CLK10, DIFFCLK_4n (in), A12 CLK8, DIFFCLK_5n (in), AA11 CLK15, DIFFCLK_6p (in), AA12 CLK13, DIFFCLK_7p (in), AB11 CLK14, DIFFCLK_6n (in), AB12 CLK12, DIFFCLK_7n (in), B11 CLK11, DIFFCLK_4p (in), B12 CLK9, DIFFCLK_5p (in), G1 CLK1, DIFFCLK_0n (in), G2 CLK0, DIFFCLK_0p (in), G21 CLK4, DIFFCLK_2p (in), G22 CLK5, DIFFCLK_2n (in), T1 CLK3, DIFFCLK_1n (in), T2 CLK2, DIFFCLK_1p (in), T21 CLK6, DIFFCLK_3p (in), T22 CLK7, DIFFCLK_3n (in)
part J pins: K2 DCLK (io), K5 nCONFIG (in), K6 nSTATUS (io), K20 MSEL3 (in), L1 TMS (in), L2 TCK (in), L3 nCE (in), L4 TDO (out), L5 TDI (in), L17 MSEL2 (in), L18 MSEL1 (in), M17 MSEL0 (in), M18 CONF_DONE (io)
part K pins: A2 VCCIO8 (power), A21 VCCIO7 (power), AA6 VCCIO3 (power), AB2 VCCIO3 (power), AB21 VCCIO4 (power), D4 VCCIO1 (power), D5 VCCIO8 (power), D9 VCCIO8 (power), D11 VCCIO8 (power), D12 VCCIO7 (power), D14 VCCIO7 (power), D16 VCCIO7 (power), D18 VCCIO7 (power), E8 VCCIO8 (power), E19 VCCIO6 (power), F4 VCCIO1 (power), G19 VCCIO6 (power), H4 VCCIO1 (power), J8 VCCINT (power), J10 VCCINT (power), J11 VCCINT (power), J12 VCCINT (power), J13 VCCINT (power), J14 VCCINT (power), J20 VCCIO6 (power), K4 VCCIO1 (power), K9 VCCINT (power), K14 VCCINT (power), L9 VCCINT (power), L14 VCCINT (power), L19 VCCIO6 (power), M9 VCCINT (power), M14 VCCINT (power), N4 VCCIO2 (power), N9 VCCINT (power), P9 VCCINT (power), P10 VCCINT (power), P11 VCCINT (power), P12 VCCINT (power), P13 VCCINT (power), P18 VCCIO5 (power), R4 VCCIO2 (power), T13 VCCINT (power), T19 VCCIO5 (power), U4 VCCIO2 (power), U16 VCCINT (power), U17 VCCINT (power), V19 VCCIO5 (power), W4 VCCIO2 (power), W5 VCCIO3 (power), W9 VCCIO3 (power), W11 VCCIO3 (power), W12 VCCIO4 (power), W16 VCCIO4 (power), W18 VCCIO4 (power), Y14 VCCIO4 (power), Y19 VCCIO5 (power)
part L pins: A1 GND (power), A22 GND (power), AB1 GND (power), AB6 GND (power), AB22 GND (power), C5 GND (power), C9 GND (power), C11 GND (power), C12 GND (power), C14 GND (power), C16 GND (power), C18 GND (power), D3 GND (power), D7 GND (power), D8 GND (power), E20 GND (power), F3 GND (power), G20 GND (power), H3 GND (power), H8 GND (power), J5 GND (power), J9 GND (power), J19 GND (power), K3 GND (power), K10 GND (power), K11 GND (power), K12 GND (power), K13 GND (power), L10 GND (power), L11 GND (power), L12 GND (power), L13 GND (power), L20 GND (power), M10 GND (power), M11 GND (power), M12 GND (power), M13 GND (power), N3 GND (power), N10 GND (power), N11 GND (power), N12 GND (power), N13 GND (power), P19 GND (power), R3 GND (power), T20 GND (power), U3 GND (power), V20 GND (power), W3 GND (power), Y5 GND (power), Y9 GND (power), Y11 GND (power), Y12 GND (power), Y15 GND (power), Y16 GND (power), Y18 GND (power), Y20 GND (power)
part M pins: E17 VCCD_PLL2 (power), E18 GNDA2 (power), F5 GNDA3 (power), F6 VCCD_PLL3 (power), F18 VCCA2 (power), G6 VCCA3 (power), T6 VCCA1 (power), U5 GNDA1 (power), U6 VCCD_PLL1 (power), U18 VCCA4 (power), V17 VCCD_PLL4 (power), V18 GNDA4 (power)
part A text: BANK 1
part B text: BANK 2
part C text: BANK 3
part D text: BANK 4
part E text: BANK 5
part F text: BANK 6
part G text: BANK 7
part H text: BANK 8

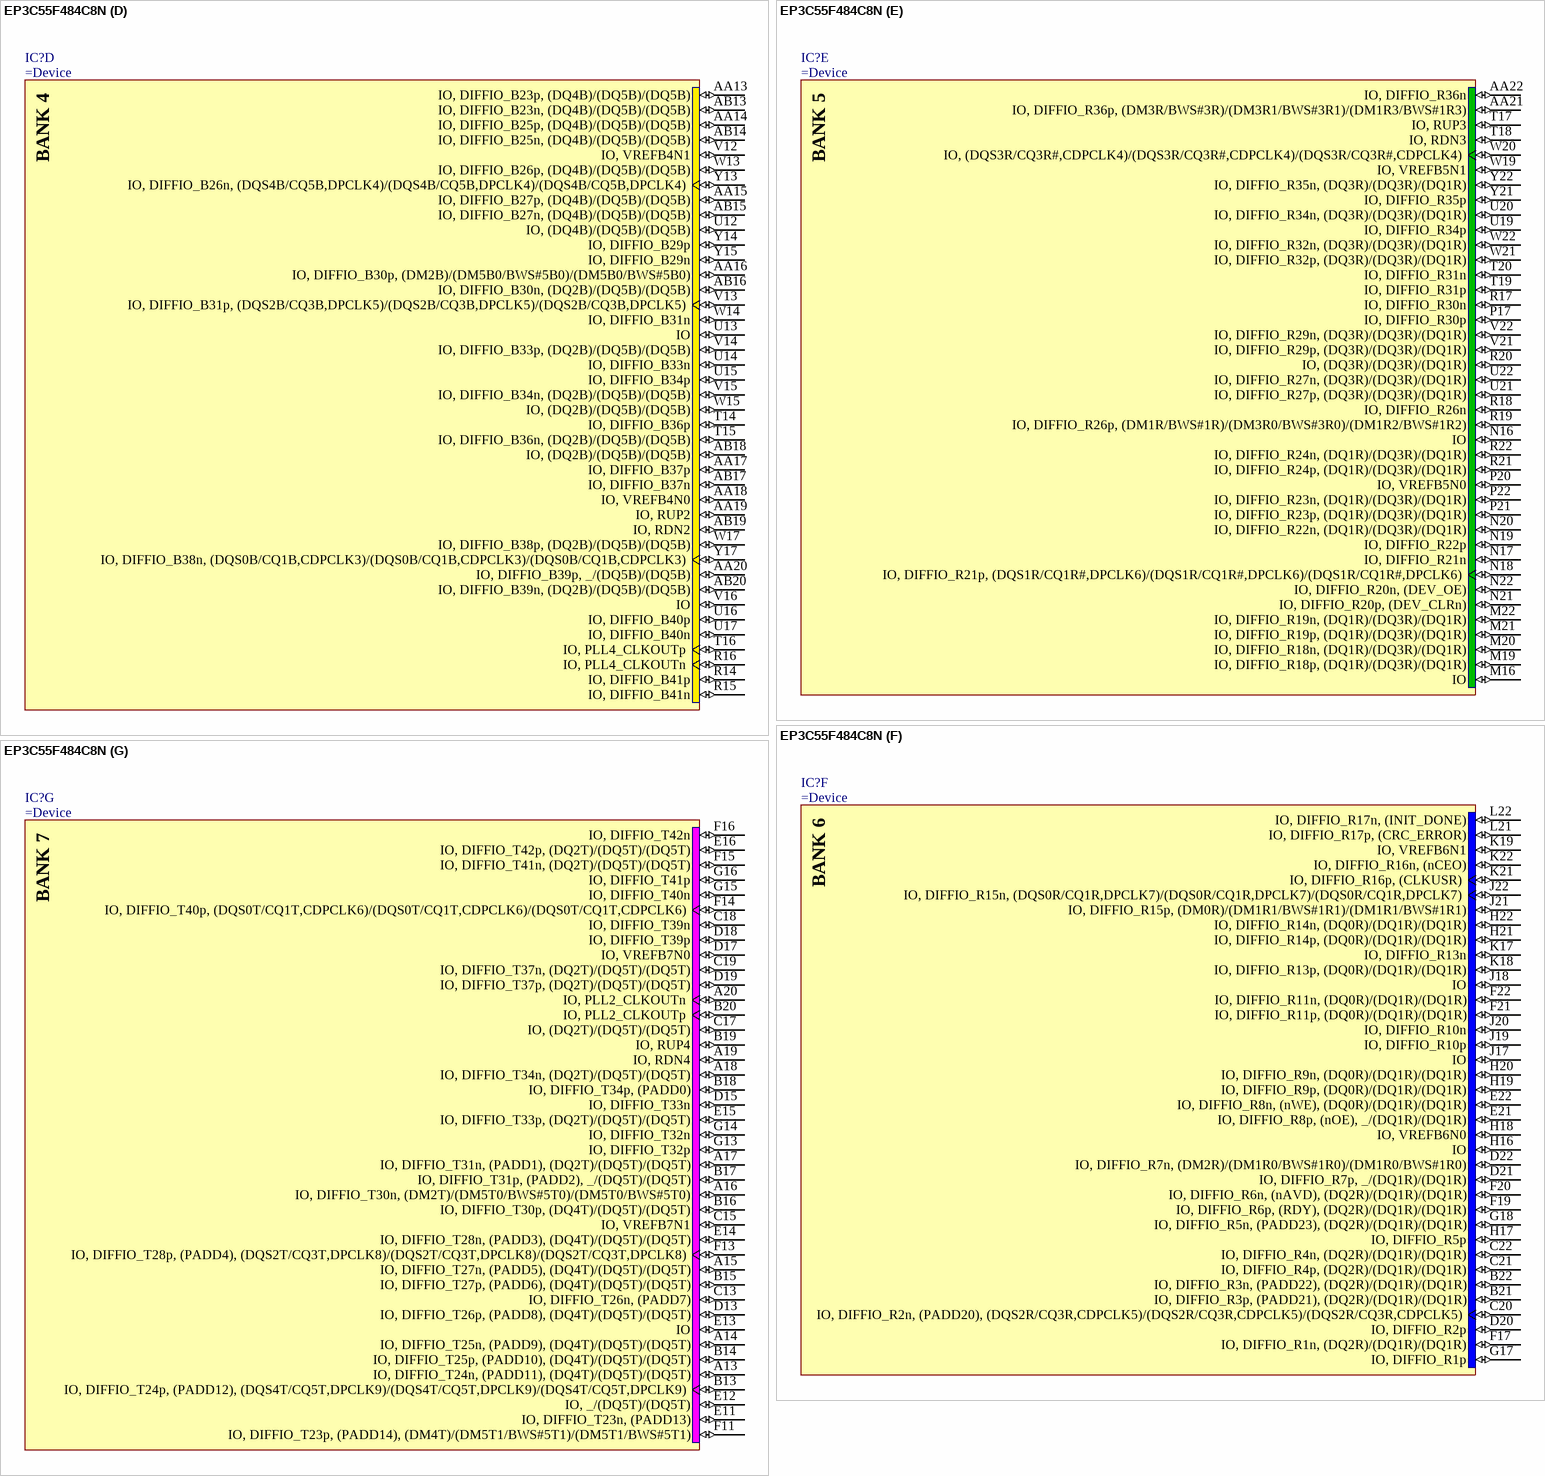
[diagram p56: symbol EP3C55F484C8N]

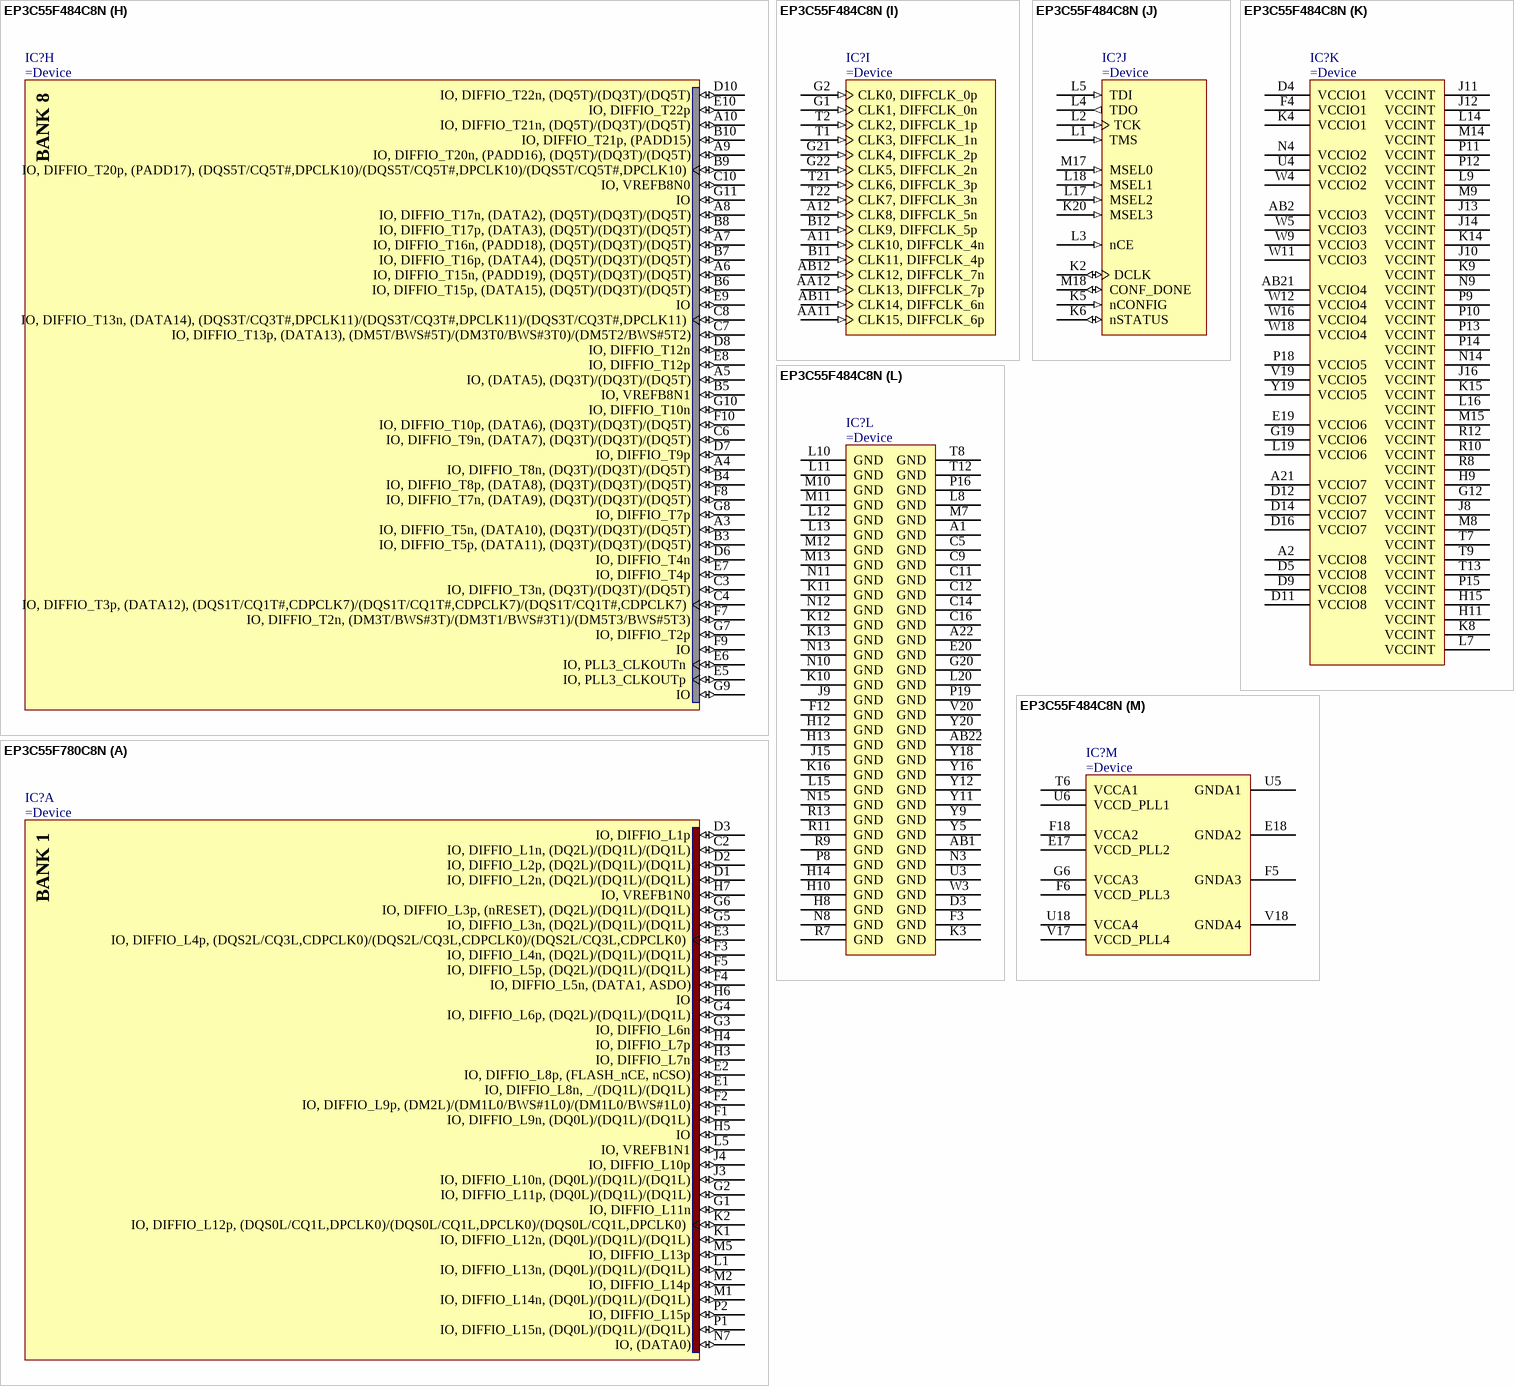
[diagram p57: symbols EP3C55F484C8N to EP3C55F780C8N]

## EP3C55F484C8N
designator IC?
Cyclone III Family FPGA, 377 I/O Pins, 4 PLLs, 484-Pin FBGA, Speed Grade 8, Commercial Grade
part A pins: B1 IO, DIFFIO_L2n, (DQ2L)/(DQ1L)/(DQ1L) (io), B2 IO, DIFFIO_L2p, (DQ2L)/(DQ1L)/(DQ1L) (io), C1 IO, DIFFIO_L4n, (DQ2L)/(DQ1L)/(DQ1L) (io), C2 IO, DIFFIO_L4p, (DQS2L/CQ3L,CDPCLK0)/(DQS2L/CQ3L,CDPCLK0)/(DQS2L/CQ3L,CDPCLK0) (io), D1 IO, DIFFIO_L5n, (DATA1, ASDO) (io), D2 IO, DIFFIO_L5p, (DQ2L)/(DQ1L)/(DQ1L) (io), E1 IO, DIFFIO_L8n, _/(DQ1L)/(DQ1L) (io), E2 IO, DIFFIO_L8p, (FLASH_nCE, nCSO) (io), E3 IO, DIFFIO_L3n, (DQ2L)/(DQ1L)/(DQ1L) (io), E4 IO, DIFFIO_L3p, (nRESET), (DQ2L)/(DQ1L)/(DQ1L) (io), F1 IO, DIFFIO_L9n, (DQ0L)/(DQ1L)/(DQ1L) (io), F2 IO, DIFFIO_L9p, (DM2L)/(DM1L0/BWS#1L0)/(DM1L0/BWS#1L0) (io), G3 IO, DIFFIO_L1n (io), G4 IO, DIFFIO_L1p (io), G5 IO, VREFB1N0 (io), H1 IO, DIFFIO_L13n, (DQ0L)/(DQ1L)/(DQ1L) (io), H2 IO, DIFFIO_L13p, (DQ0L)/(DQ1L)/(DQ1L) (io), H3 IO, DIFFIO_L7n (io), H4 IO, DIFFIO_L7p (io), H5 IO, VREFB1N1 (io), H6 IO, DIFFIO_L6p, (DQ2L)/(DQ1L)/(DQ1L) (io), H7 IO (io), J1 IO, DIFFIO_L15n, (DQ0L)/(DQ1L)/(DQ1L) (io), J2 IO, DIFFIO_L15p, (DQ0L)/(DQ1L)/(DQ1L) (io), J3 IO (io), J4 IO, (DQS0L/CQ1L,DPCLK0)/(DQS0L/CQ1L,DPCLK0)/(DQS0L/CQ1L,DPCLK0) (io), J5 IO (io), J6 IO, DIFFIO_L6n, (DQ2L)/(DQ1L)/(DQ1L) (io), J7 IO, DIFFIO_L11p (io), K1 IO, (DATA0) (io), K7 IO, DIFFIO_L11n (io)
part B pins: AA1 IO, DIFFIO_L31n, (DQ3L)/(DQ3L)/(DQ1L) (io), AA2 IO, DIFFIO_L31p (io), L6 IO, DIFFIO_L16p, (DQ0L)/(DQ1L)/(DQ1L) (io), M1 IO, DIFFIO_L17n, _/(DQ1L)/(DQ1L) (io), M2 IO, DIFFIO_L17p, (DQ0L)/(DQ1L)/(DQ1L) (io), M3 IO, DIFFIO_L18n, (DQ1L)/(DQ3L)/(DQ1L) (io), M4 IO, DIFFIO_L18p, (DM0L)/(DM1L1/BWS#1L1)/(DM1L1/BWS#1L1) (io), M5 IO, VREFB2N0 (io), M6 IO, DIFFIO_L16n, (DQ0L)/(DQ1L)/(DQ1L) (io), N1 IO, DIFFIO_L19n, (DQ1L)/(DQ3L)/(DQ1L) (io), N2 IO, DIFFIO_L19p, (DQ1L)/(DQ3L)/(DQ1L) (io), N5 IO, (DQ1L)/(DQ3L)/(DQ1L) (io), N6 IO, DIFFIO_L26n, (DQ3L)/(DQ3L)/(DQ1L) (io), N7 IO, DIFFIO_L30p (io), P1 IO, DIFFIO_L20n, (DQ1L)/(DQ3L)/(DQ1L) (io), P2 IO, DIFFIO_L20p, (DQ1L)/(DQ3L)/(DQ1L) (io), P3 IO, DIFFIO_L23n, (DQ1L)/(DQ3L)/(DQ1L) (io), P4 IO, DIFFIO_L23p, (DQS1L/CQ1L#,DPCLK1)/(DQS1L/CQ1L#,DPCLK1)/(DQS1L/CQ1L#,DPCLK1) (io), P5 IO, DIFFIO_L26p (io), P6 IO, DIFFIO_L32p (io), P7 IO, DIFFIO_L30n (io), R1 IO, DIFFIO_L21n, (DQ1L)/(DQ3L)/(DQ1L) (io), R2 IO, DIFFIO_L21p, (DQ1L)/(DQ3L)/(DQ1L) (io), R3 IO, DIFFIO_L27n (io), R4 IO, DIFFIO_L27p (io), R5 IO, DIFFIO_L32n (io), R6 IO, DIFFIO_L33n (io), T3 IO, VREFB2N1 (io), T4 IO, (DQS3L/CQ3L#,CDPCLK1)/(DQS3L/CQ3L#,CDPCLK1)/(DQS3L/CQ3L#,CDPCLK1) (io), T5 IO, DIFFIO_L33p, (DM3L/BWS#3L)/(DM3L1/BWS#3L1)/(DM1L3/BWS#1L3) (io), U1 IO, DIFFIO_L24n, (DQ3L)/(DQ3L)/(DQ1L) (io), U2 IO, DIFFIO_L24p, (DM1L/BWS#1L)/(DM3L0/BWS#3L0)/(DM1L2/BWS#1L2) (io), V1 IO, DIFFIO_L25n, (DQ3L)/(DQ3L)/(DQ1L) (io), V2 IO, DIFFIO_L25p, (DQ3L)/(DQ3L)/(DQ1L) (io), V3 IO, RDN1 (io), V4 IO, RUP1 (io), W1 IO, DIFFIO_L28n, (DQ3L)/(DQ3L)/(DQ1L) (io), W2 IO, DIFFIO_L28p, (DQ3L)/(DQ3L)/(DQ1L) (io), Y1 IO, DIFFIO_L29n, (DQ3L)/(DQ3L)/(DQ1L) (io), Y2 IO, DIFFIO_L29p, (DQ3L)/(DQ3L)/(DQ1L) (io)
part C pins: AA3 IO, PLL1_CLKOUTp (io), AA4 IO, (DQ3B)/(DQ3B)/(DQ5B) (io), AA5 IO, DIFFIO_B5p, (DQ3B)/(DQ3B)/(DQ5B) (io), AA6 IO, DIFFIO_B5n (io), AA7 IO, DIFFIO_B10p, (DM5B/BWS#5B)/(DM3B0/BWS#3B0)/(DM5B2/BWS#5B2) (io), AA8 IO, DIFFIO_B17p, (DQ5B)/(DQ3B)/(DQ5B) (io), AA9 IO, DIFFIO_B18p, (DQ5B)/(DQ3B)/(DQ5B) (io), AA10 IO, DIFFIO_B21p, (DM4B)/(DM5B1/BWS#5B1)/(DM5B1/BWS#5B1) (io), AB3 IO, PLL1_CLKOUTn (io), AB4 IO, VREFB3N1 (io), AB5 IO, DIFFIO_B6n (io), AB6 IO, DIFFIO_B6p (io), AB7 IO, DIFFIO_B10n, (DQ5B)/(DQ3B)/(DQ5B) (io), AB8 IO, DIFFIO_B17n, (DQ5B)/(DQ3B)/(DQ5B) (io), AB9 IO, DIFFIO_B18n, (DQS5B/CQ5B#,DPCLK3)/(DQS5B/CQ5B#,DPCLK3)/(DQS5B/CQ5B#,DPCLK3) (io), AB10 IO, DIFFIO_B21n, _/(DQ5B)/(DQ5B) (io), T10 IO, DIFFIO_B13p (io), T11 IO, DIFFIO_B13n (io), U7 IO, DIFFIO_B2p (io), U8 IO, DIFFIO_B2n (io), U9 IO, DIFFIO_B8p, (DQ3B)/(DQ3B)/(DQ5B) (io), U10 IO, (DQ5B)/(DQ3B)/(DQ5B) (io), U11 IO, DIFFIO_B19p (io), V5 IO, DIFFIO_B1n, (DM3B/BWS#3B)/(DM3B1/BWS#3B1)/(DM5B3/BWS#5B3) (io), V6 IO, DIFFIO_B1p (io), V7 IO, DIFFIO_B4n (io), V8 IO, DIFFIO_B8n, (DQ3B)/(DQ3B)/(DQ5B) (io), V9 IO, VREFB3N0 (io), V10 IO, (DQS3B/CQ3B#,DPCLK2)/(DQS3B/CQ3B#,DPCLK2)/(DQS3B/CQ3B#,DPCLK2) (io), V11 IO, DIFFIO_B19n, (DQ5B)/(DQ3B)/(DQ5B) (io), W6 IO, DIFFIO_B4p, (DQ3B)/(DQ3B)/(DQ5B) (io), W7 IO, DIFFIO_B7p, (DQ3B)/(DQ3B)/(DQ5B) (io), W8 IO, (DQ3B)/(DQ3B)/(DQ5B) (io), W10 IO, DIFFIO_B20p, (DQ5B)/(DQ3B)/(DQ5B) (io), Y3 IO, DIFFIO_B3n, (DQ3B)/(DQ3B)/(DQ5B) (io), Y4 IO, DIFFIO_B3p (io), Y6 IO, (DQS1B/CQ1B#,CDPCLK2)/(DQS1B/CQ1B#,CDPCLK2)/(DQS1B/CQ1B#,CDPCLK2) (io), Y7 IO, DIFFIO_B7n, (DQ3B)/(DQ3B)/(DQ5B) (io), Y8 IO, (DQ5B)/(DQ3B)/(DQ5B) (io), Y10 IO, DIFFIO_B20n, (DQ5B)/(DQ3B)/(DQ5B) (io)
part D pins: AA13 IO, DIFFIO_B23p, (DQ4B)/(DQ5B)/(DQ5B) (io), AA14 IO, DIFFIO_B25p, (DQ4B)/(DQ5B)/(DQ5B) (io), AA15 IO, DIFFIO_B27p, (DQ4B)/(DQ5B)/(DQ5B) (io), AA16 IO, DIFFIO_B30p, (DM2B)/(DM5B0/BWS#5B0)/(DM5B0/BWS#5B0) (io), AA17 IO, DIFFIO_B37p (io), AA18 IO, VREFB4N0 (io), AA19 IO, RUP2 (io), AA20 IO, DIFFIO_B39p, _/(DQ5B)/(DQ5B) (io), AB13 IO, DIFFIO_B23n, (DQ4B)/(DQ5B)/(DQ5B) (io), AB14 IO, DIFFIO_B25n, (DQ4B)/(DQ5B)/(DQ5B) (io), AB15 IO, DIFFIO_B27n, (DQ4B)/(DQ5B)/(DQ5B) (io), AB16 IO, DIFFIO_B30n, (DQ2B)/(DQ5B)/(DQ5B) (io), AB17 IO, DIFFIO_B37n (io), AB18 IO, (DQ2B)/(DQ5B)/(DQ5B) (io), AB19 IO, RDN2 (io), AB20 IO, DIFFIO_B39n, (DQ2B)/(DQ5B)/(DQ5B) (io), R14 IO, DIFFIO_B41p (io), R15 IO, DIFFIO_B41n (io), R16 IO, PLL4_CLKOUTn (io), T14 IO, DIFFIO_B36p (io), T15 IO, DIFFIO_B36n, (DQ2B)/(DQ5B)/(DQ5B) (io), T16 IO, PLL4_CLKOUTp (io), U12 IO, (DQ4B)/(DQ5B)/(DQ5B) (io), U13 IO (io), U14 IO, DIFFIO_B33n (io), U15 IO, DIFFIO_B34p (io), U16 IO, DIFFIO_B40p (io), U17 IO, DIFFIO_B40n (io), V12 IO, VREFB4N1 (io), V13 IO, DIFFIO_B31p, (DQS2B/CQ3B,DPCLK5)/(DQS2B/CQ3B,DPCLK5)/(DQS2B/CQ3B,DPCLK5) (io), V14 IO, DIFFIO_B33p, (DQ2B)/(DQ5B)/(DQ5B) (io), V15 IO, DIFFIO_B34n, (DQ2B)/(DQ5B)/(DQ5B) (io), V16 IO (io), W13 IO, DIFFIO_B26p, (DQ4B)/(DQ5B)/(DQ5B) (io), W14 IO, DIFFIO_B31n (io), W15 IO, (DQ2B)/(DQ5B)/(DQ5B) (io), W17 IO, DIFFIO_B38p, (DQ2B)/(DQ5B)/(DQ5B) (io), Y13 IO, DIFFIO_B26n, (DQS4B/CQ5B,DPCLK4)/(DQS4B/CQ5B,DPCLK4)/(DQS4B/CQ5B,DPCLK4) (io), Y14 IO, DIFFIO_B29p (io), Y15 IO, DIFFIO_B29n (io), Y17 IO, DIFFIO_B38n, (DQS0B/CQ1B,CDPCLK3)/(DQS0B/CQ1B,CDPCLK3)/(DQS0B/CQ1B,CDPCLK3) (io)
part E pins: AA21 IO, DIFFIO_R36p, (DM3R/BWS#3R)/(DM3R1/BWS#3R1)/(DM1R3/BWS#1R3) (io), AA22 IO, DIFFIO_R36n (io), M16 IO (io), M19 IO, DIFFIO_R18p, (DQ1R)/(DQ3R)/(DQ1R) (io), M20 IO, DIFFIO_R18n, (DQ1R)/(DQ3R)/(DQ1R) (io), M21 IO, DIFFIO_R19p, (DQ1R)/(DQ3R)/(DQ1R) (io), M22 IO, DIFFIO_R19n, (DQ1R)/(DQ3R)/(DQ1R) (io), N16 IO (io), N17 IO, DIFFIO_R21n (io), N18 IO, DIFFIO_R21p, (DQS1R/CQ1R#,DPCLK6)/(DQS1R/CQ1R#,DPCLK6)/(DQS1R/CQ1R#,DPCLK6) (io), N19 IO, DIFFIO_R22p (io), N20 IO, DIFFIO_R22n, (DQ1R)/(DQ3R)/(DQ1R) (io), N21 IO, DIFFIO_R20p, (DEV_CLRn) (io), N22 IO, DIFFIO_R20n, (DEV_OE) (io), P17 IO, DIFFIO_R30p (io), P20 IO, VREFB5N0 (io), P21 IO, DIFFIO_R23p, (DQ1R)/(DQ3R)/(DQ1R) (io), P22 IO, DIFFIO_R23n, (DQ1R)/(DQ3R)/(DQ1R) (io), R17 IO, DIFFIO_R30n (io), R18 IO, DIFFIO_R26n (io), R19 IO, DIFFIO_R26p, (DM1R/BWS#1R)/(DM3R0/BWS#3R0)/(DM1R2/BWS#1R2) (io), R20 IO, (DQ3R)/(DQ3R)/(DQ1R) (io), R21 IO, DIFFIO_R24p, (DQ1R)/(DQ3R)/(DQ1R) (io), R22 IO, DIFFIO_R24n, (DQ1R)/(DQ3R)/(DQ1R) (io), T17 IO, RUP3 (io), T18 IO, RDN3 (io), T19 IO, DIFFIO_R31p (io), T20 IO, DIFFIO_R31n (io), U19 IO, DIFFIO_R34p (io), U20 IO, DIFFIO_R34n, (DQ3R)/(DQ3R)/(DQ1R) (io), U21 IO, DIFFIO_R27p, (DQ3R)/(DQ3R)/(DQ1R) (io), U22 IO, DIFFIO_R27n, (DQ3R)/(DQ3R)/(DQ1R) (io), V21 IO, DIFFIO_R29p, (DQ3R)/(DQ3R)/(DQ1R) (io), V22 IO, DIFFIO_R29n, (DQ3R)/(DQ3R)/(DQ1R) (io), W19 IO, VREFB5N1 (io), W20 IO, (DQS3R/CQ3R#,CDPCLK4)/(DQS3R/CQ3R#,CDPCLK4)/(DQS3R/CQ3R#,CDPCLK4) (io), W21 IO, DIFFIO_R32p, (DQ3R)/(DQ3R)/(DQ1R) (io), W22 IO, DIFFIO_R32n, (DQ3R)/(DQ3R)/(DQ1R) (io), Y21 IO, DIFFIO_R35p (io), Y22 IO, DIFFIO_R35n, (DQ3R)/(DQ3R)/(DQ1R) (io)
part F pins: B21 IO, DIFFIO_R3p, (PADD21), (DQ2R)/(DQ1R)/(DQ1R) (io), B22 IO, DIFFIO_R3n, (PADD22), (DQ2R)/(DQ1R)/(DQ1R) (io), C20 IO, DIFFIO_R2n, (PADD20), (DQS2R/CQ3R,CDPCLK5)/(DQS2R/CQ3R,CDPCLK5)/(DQS2R/CQ3R,CDPCLK5) (io), C21 IO, DIFFIO_R4p, (DQ2R)/(DQ1R)/(DQ1R) (io), C22 IO, DIFFIO_R4n, (DQ2R)/(DQ1R)/(DQ1R) (io), D20 IO, DIFFIO_R2p (io), D21 IO, DIFFIO_R7p, _/(DQ1R)/(DQ1R) (io), D22 IO, DIFFIO_R7n, (DM2R)/(DM1R0/BWS#1R0)/(DM1R0/BWS#1R0) (io), E21 IO, DIFFIO_R8p, (nOE), _/(DQ1R)/(DQ1R) (io), E22 IO, DIFFIO_R8n, (nWE), (DQ0R)/(DQ1R)/(DQ1R) (io), F17 IO, DIFFIO_R1n, (DQ2R)/(DQ1R)/(DQ1R) (io), F19 IO, DIFFIO_R6p, (RDY), (DQ2R)/(DQ1R)/(DQ1R) (io), F20 IO, DIFFIO_R6n, (nAVD), (DQ2R)/(DQ1R)/(DQ1R) (io), F21 IO, DIFFIO_R11p, (DQ0R)/(DQ1R)/(DQ1R) (io), F22 IO, DIFFIO_R11n, (DQ0R)/(DQ1R)/(DQ1R) (io), G17 IO, DIFFIO_R1p (io), G18 IO, DIFFIO_R5n, (PADD23), (DQ2R)/(DQ1R)/(DQ1R) (io), H16 IO (io), H17 IO, DIFFIO_R5p (io), H18 IO, VREFB6N0 (io), H19 IO, DIFFIO_R9p, (DQ0R)/(DQ1R)/(DQ1R) (io), H20 IO, DIFFIO_R9n, (DQ0R)/(DQ1R)/(DQ1R) (io), H21 IO, DIFFIO_R14p, (DQ0R)/(DQ1R)/(DQ1R) (io), H22 IO, DIFFIO_R14n, (DQ0R)/(DQ1R)/(DQ1R) (io), J17 IO (io), J18 IO (io), J19 IO, DIFFIO_R10p (io), J20 IO, DIFFIO_R10n (io), J21 IO, DIFFIO_R15p, (DM0R)/(DM1R1/BWS#1R1)/(DM1R1/BWS#1R1) (io), J22 IO, DIFFIO_R15n, (DQS0R/CQ1R,DPCLK7)/(DQS0R/CQ1R,DPCLK7)/(DQS0R/CQ1R,DPCLK7) (io), K17 IO, DIFFIO_R13n (io), K18 IO, DIFFIO_R13p, (DQ0R)/(DQ1R)/(DQ1R) (io), K19 IO, VREFB6N1 (io), K21 IO, DIFFIO_R16p, (CLKUSR) (io), K22 IO, DIFFIO_R16n, (nCEO) (io), L21 IO, DIFFIO_R17p, (CRC_ERROR) (io), L22 IO, DIFFIO_R17n, (INIT_DONE) (io)
part G pins: A13 IO, DIFFIO_T24n, (PADD11), (DQ4T)/(DQ5T)/(DQ5T) (io), A14 IO, DIFFIO_T25n, (PADD9), (DQ4T)/(DQ5T)/(DQ5T) (io), A15 IO, DIFFIO_T27n, (PADD5), (DQ4T)/(DQ5T)/(DQ5T) (io), A16 IO, DIFFIO_T30n, (DM2T)/(DM5T0/BWS#5T0)/(DM5T0/BWS#5T0) (io), A17 IO, DIFFIO_T31n, (PADD1), (DQ2T)/(DQ5T)/(DQ5T) (io), A18 IO, DIFFIO_T34n, (DQ2T)/(DQ5T)/(DQ5T) (io), A19 IO, RDN4 (io), A20 IO, PLL2_CLKOUTn (io), B13 IO, DIFFIO_T24p, (PADD12), (DQS4T/CQ5T,DPCLK9)/(DQS4T/CQ5T,DPCLK9)/(DQS4T/CQ5T,DPCLK9) (io), B14 IO, DIFFIO_T25p, (PADD10), (DQ4T)/(DQ5T)/(DQ5T) (io), B15 IO, DIFFIO_T27p, (PADD6), (DQ4T)/(DQ5T)/(DQ5T) (io), B16 IO, DIFFIO_T30p, (DQ4T)/(DQ5T)/(DQ5T) (io), B17 IO, DIFFIO_T31p, (PADD2), _/(DQ5T)/(DQ5T) (io), B18 IO, DIFFIO_T34p, (PADD0) (io), B19 IO, RUP4 (io), B20 IO, PLL2_CLKOUTp (io), C13 IO, DIFFIO_T26n, (PADD7) (io), C15 IO, VREFB7N1 (io), C17 IO, (DQ2T)/(DQ5T)/(DQ5T) (io), C18 IO, DIFFIO_T39n (io), C19 IO, DIFFIO_T37n, (DQ2T)/(DQ5T)/(DQ5T) (io), D13 IO, DIFFIO_T26p, (PADD8), (DQ4T)/(DQ5T)/(DQ5T) (io), D15 IO, DIFFIO_T33n (io), D17 IO, VREFB7N0 (io), D18 IO, DIFFIO_T39p (io), D19 IO, DIFFIO_T37p, (DQ2T)/(DQ5T)/(DQ5T) (io), E11 IO, DIFFIO_T23n, (PADD13) (io), E12 IO, _/(DQ5T)/(DQ5T) (io), E13 IO (io), E14 IO, DIFFIO_T28n, (PADD3), (DQ4T)/(DQ5T)/(DQ5T) (io), E15 IO, DIFFIO_T33p, (DQ2T)/(DQ5T)/(DQ5T) (io), E16 IO, DIFFIO_T42p, (DQ2T)/(DQ5T)/(DQ5T) (io), F11 IO, DIFFIO_T23p, (PADD14), (DM4T)/(DM5T1/BWS#5T1)/(DM5T1/BWS#5T1) (io), F13 IO, DIFFIO_T28p, (PADD4), (DQS2T/CQ3T,DPCLK8)/(DQS2T/CQ3T,DPCLK8)/(DQS2T/CQ3T,DPCLK8) (io), F14 IO, DIFFIO_T40p, (DQS0T/CQ1T,CDPCLK6)/(DQS0T/CQ1T,CDPCLK6)/(DQS0T/CQ1T,CDPCLK6) (io), F15 IO, DIFFIO_T41n, (DQ2T)/(DQ5T)/(DQ5T) (io), F16 IO, DIFFIO_T42n (io), G13 IO, DIFFIO_T32p (io), G14 IO, DIFFIO_T32n (io), G15 IO, DIFFIO_T40n (io), G16 IO, DIFFIO_T41p (io)
part H pins: A3 IO, DIFFIO_T5n, (DATA10), (DQ3T)/(DQ3T)/(DQ5T) (io), A4 IO, DIFFIO_T8n, (DQ3T)/(DQ3T)/(DQ5T) (io), A5 IO, (DATA5), (DQ3T)/(DQ3T)/(DQ5T) (io), A6 IO, DIFFIO_T15n, (PADD19), (DQ5T)/(DQ3T)/(DQ5T) (io), A7 IO, DIFFIO_T16n, (PADD18), (DQ5T)/(DQ3T)/(DQ5T) (io), A8 IO, DIFFIO_T17n, (DATA2), (DQ5T)/(DQ3T)/(DQ5T) (io), A9 IO, DIFFIO_T20n, (PADD16), (DQ5T)/(DQ3T)/(DQ5T) (io), A10 IO, DIFFIO_T21n, (DQ5T)/(DQ3T)/(DQ5T) (io), B3 IO, DIFFIO_T5p, (DATA11), (DQ3T)/(DQ3T)/(DQ5T) (io), B4 IO, DIFFIO_T8p, (DATA8), (DQ3T)/(DQ3T)/(DQ5T) (io), B5 IO, VREFB8N1 (io), B6 IO, DIFFIO_T15p, (DATA15), (DQ5T)/(DQ3T)/(DQ5T) (io), B7 IO, DIFFIO_T16p, (DATA4), (DQ5T)/(DQ3T)/(DQ5T) (io), B8 IO, DIFFIO_T17p, (DATA3), (DQ5T)/(DQ3T)/(DQ5T) (io), B9 IO, DIFFIO_T20p, (PADD17), (DQS5T/CQ5T#,DPCLK10)/(DQS5T/CQ5T#,DPCLK10)/(DQS5T/CQ5T#,DPCLK10) (io), B10 IO, DIFFIO_T21p, (PADD15) (io), C3 IO, DIFFIO_T3n, (DQ3T)/(DQ3T)/(DQ5T) (io), C4 IO, DIFFIO_T3p, (DATA12), (DQS1T/CQ1T#,CDPCLK7)/(DQS1T/CQ1T#,CDPCLK7)/(DQS1T/CQ1T#,CDPCLK7) (io), C6 IO, DIFFIO_T9n, (DATA7), (DQ3T)/(DQ3T)/(DQ5T) (io), C7 IO, DIFFIO_T13p, (DATA13), (DM5T/BWS#5T)/(DM3T0/BWS#3T0)/(DM5T2/BWS#5T2) (io), C8 IO, DIFFIO_T13n, (DATA14), (DQS3T/CQ3T#,DPCLK11)/(DQS3T/CQ3T#,DPCLK11)/(DQS3T/CQ3T#,DPCLK11) (io), C10 IO, VREFB8N0 (io), D6 IO, DIFFIO_T4n (io), D7 IO, DIFFIO_T9p (io), D8 IO, DIFFIO_T12n (io), D10 IO, DIFFIO_T22n, (DQ5T)/(DQ3T)/(DQ5T) (io), E5 IO, PLL3_CLKOUTp (io), E6 IO, PLL3_CLKOUTn (io), E7 IO, DIFFIO_T4p (io), E8 IO, DIFFIO_T12p (io), E9 IO (io), E10 IO, DIFFIO_T22p (io), F7 IO, DIFFIO_T2n, (DM3T/BWS#3T)/(DM3T1/BWS#3T1)/(DM5T3/BWS#5T3) (io), F8 IO, DIFFIO_T7n, (DATA9), (DQ3T)/(DQ3T)/(DQ5T) (io), F9 IO (io), F10 IO, DIFFIO_T10p, (DATA6), (DQ3T)/(DQ3T)/(DQ5T) (io), G7 IO, DIFFIO_T2p (io), G8 IO, DIFFIO_T7p (io), G9 IO (io), G10 IO, DIFFIO_T10n (io), G11 IO (io)
part I pins: A11 CLK10, DIFFCLK_4n (in), A12 CLK8, DIFFCLK_5n (in), AA11 CLK15, DIFFCLK_6p (in), AA12 CLK13, DIFFCLK_7p (in), AB11 CLK14, DIFFCLK_6n (in), AB12 CLK12, DIFFCLK_7n (in), B11 CLK11, DIFFCLK_4p (in), B12 CLK9, DIFFCLK_5p (in), G1 CLK1, DIFFCLK_0n (in), G2 CLK0, DIFFCLK_0p (in), G21 CLK4, DIFFCLK_2p (in), G22 CLK5, DIFFCLK_2n (in), T1 CLK3, DIFFCLK_1n (in), T2 CLK2, DIFFCLK_1p (in), T21 CLK6, DIFFCLK_3p (in), T22 CLK7, DIFFCLK_3n (in)
part J pins: K2 DCLK (io), K5 nCONFIG (in), K6 nSTATUS (io), K20 MSEL3 (in), L1 TMS (in), L2 TCK (in), L3 nCE (in), L4 TDO (out), L5 TDI (in), L17 MSEL2 (in), L18 MSEL1 (in), M17 MSEL0 (in), M18 CONF_DONE (io)
part K pins: A2 VCCIO8 (power), A21 VCCIO7 (power), AB2 VCCIO3 (power), AB21 VCCIO4 (power), D4 VCCIO1 (power), D5 VCCIO8 (power), D9 VCCIO8 (power), D11 VCCIO8 (power), D12 VCCIO7 (power), D14 VCCIO7 (power), D16 VCCIO7 (power), E19 VCCIO6 (power), F4 VCCIO1 (power), G12 VCCINT (power), G19 VCCIO6 (power), H9 VCCINT (power), H11 VCCINT (power), H15 VCCINT (power), J8 VCCINT (power), J10 VCCINT (power), J11 VCCINT (power), J12 VCCINT (power), J13 VCCINT (power), J14 VCCINT (power), J16 VCCINT (power), K4 VCCIO1 (power), K8 VCCINT (power), K9 VCCINT (power), K14 VCCINT (power), K15 VCCINT (power), L7 VCCINT (power), L9 VCCINT (power), L14 VCCINT (power), L16 VCCINT (power), L19 VCCIO6 (power), M8 VCCINT (power), M9 VCCINT (power), M14 VCCINT (power), M15 VCCINT (power), N4 VCCIO2 (power), N9 VCCINT (power), N14 VCCINT (power), P9 VCCINT (power), P10 VCCINT (power), P11 VCCINT (power), P12 VCCINT (power), P13 VCCINT (power), P14 VCCINT (power), P15 VCCINT (power), P18 VCCIO5 (power), R8 VCCINT (power), R10 VCCINT (power), R12 VCCINT (power), T7 VCCINT (power), T9 VCCINT (power), T13 VCCINT (power), U4 VCCIO2 (power), V19 VCCIO5 (power), W4 VCCIO2 (power), W5 VCCIO3 (power), W9 VCCIO3 (power), W11 VCCIO3 (power), W12 VCCIO4 (power), W16 VCCIO4 (power), W18 VCCIO4 (power), Y19 VCCIO5 (power)
part L pins: A1 GND (power), A22 GND (power), AB1 GND (power), AB22 GND (power), C5 GND (power), C9 GND (power), C11 GND (power), C12 GND (power), C14 GND (power), C16 GND (power), D3 GND (power), E20 GND (power), F3 GND (power), F12 GND (power), G20 GND (power), H8 GND (power), H10 GND (power), H12 GND (power), H13 GND (power), H14 GND (power), J9 GND (power), J15 GND (power), K3 GND (power), K10 GND (power), K11 GND (power), K12 GND (power), K13 GND (power), K16 GND (power), L8 GND (power), L10 GND (power), L11 GND (power), L12 GND (power), L13 GND (power), L15 GND (power), L20 GND (power), M7 GND (power), M10 GND (power), M11 GND (power), M12 GND (power), M13 GND (power), N3 GND (power), N8 GND (power), N10 GND (power), N11 GND (power), N12 GND (power), N13 GND (power), N15 GND (power), P8 GND (power), P16 GND (power), P19 GND (power), R7 GND (power), R9 GND (power), R11 GND (power), R13 GND (power), T8 GND (power), T12 GND (power), U3 GND (power), V20 GND (power), W3 GND (power), Y5 GND (power), Y9 GND (power), Y11 GND (power), Y12 GND (power), Y16 GND (power), Y18 GND (power), Y20 GND (power)
part M pins: E17 VCCD_PLL2 (power), E18 GNDA2 (power), F5 GNDA3 (power), F6 VCCD_PLL3 (power), F18 VCCA2 (power), G6 VCCA3 (power), T6 VCCA1 (power), U5 GNDA1 (power), U6 VCCD_PLL1 (power), U18 VCCA4 (power), V17 VCCD_PLL4 (power), V18 GNDA4 (power)
part A text: BANK 1
part B text: BANK 2
part C text: BANK 3
part D text: BANK 4
part E text: BANK 5
part F text: BANK 6
part G text: BANK 7
part H text: BANK 8

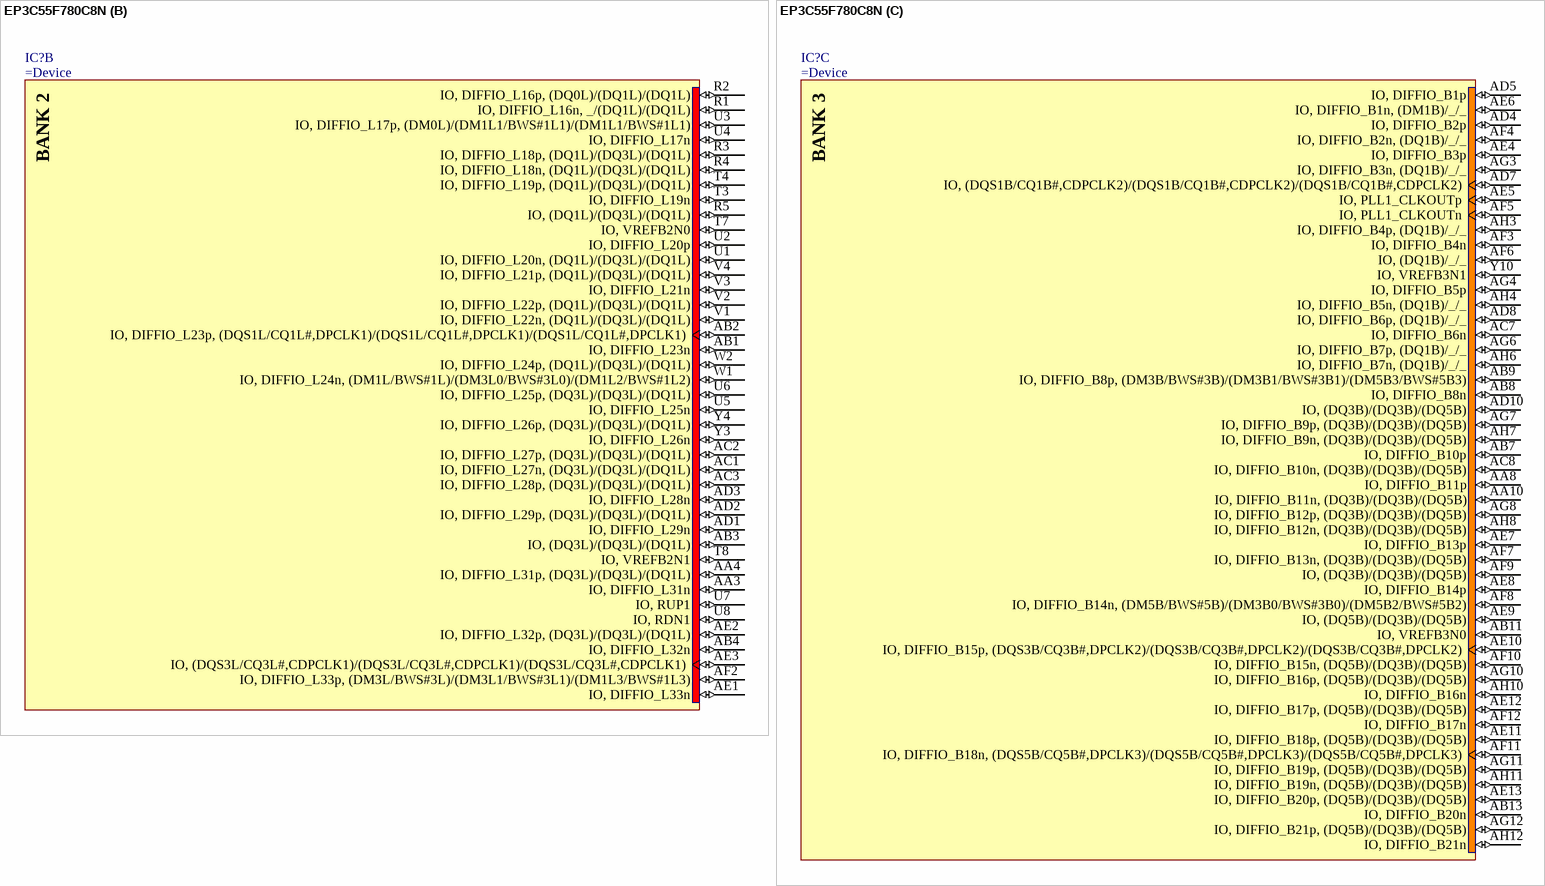
[diagram p58: symbol EP3C55F780C8N]

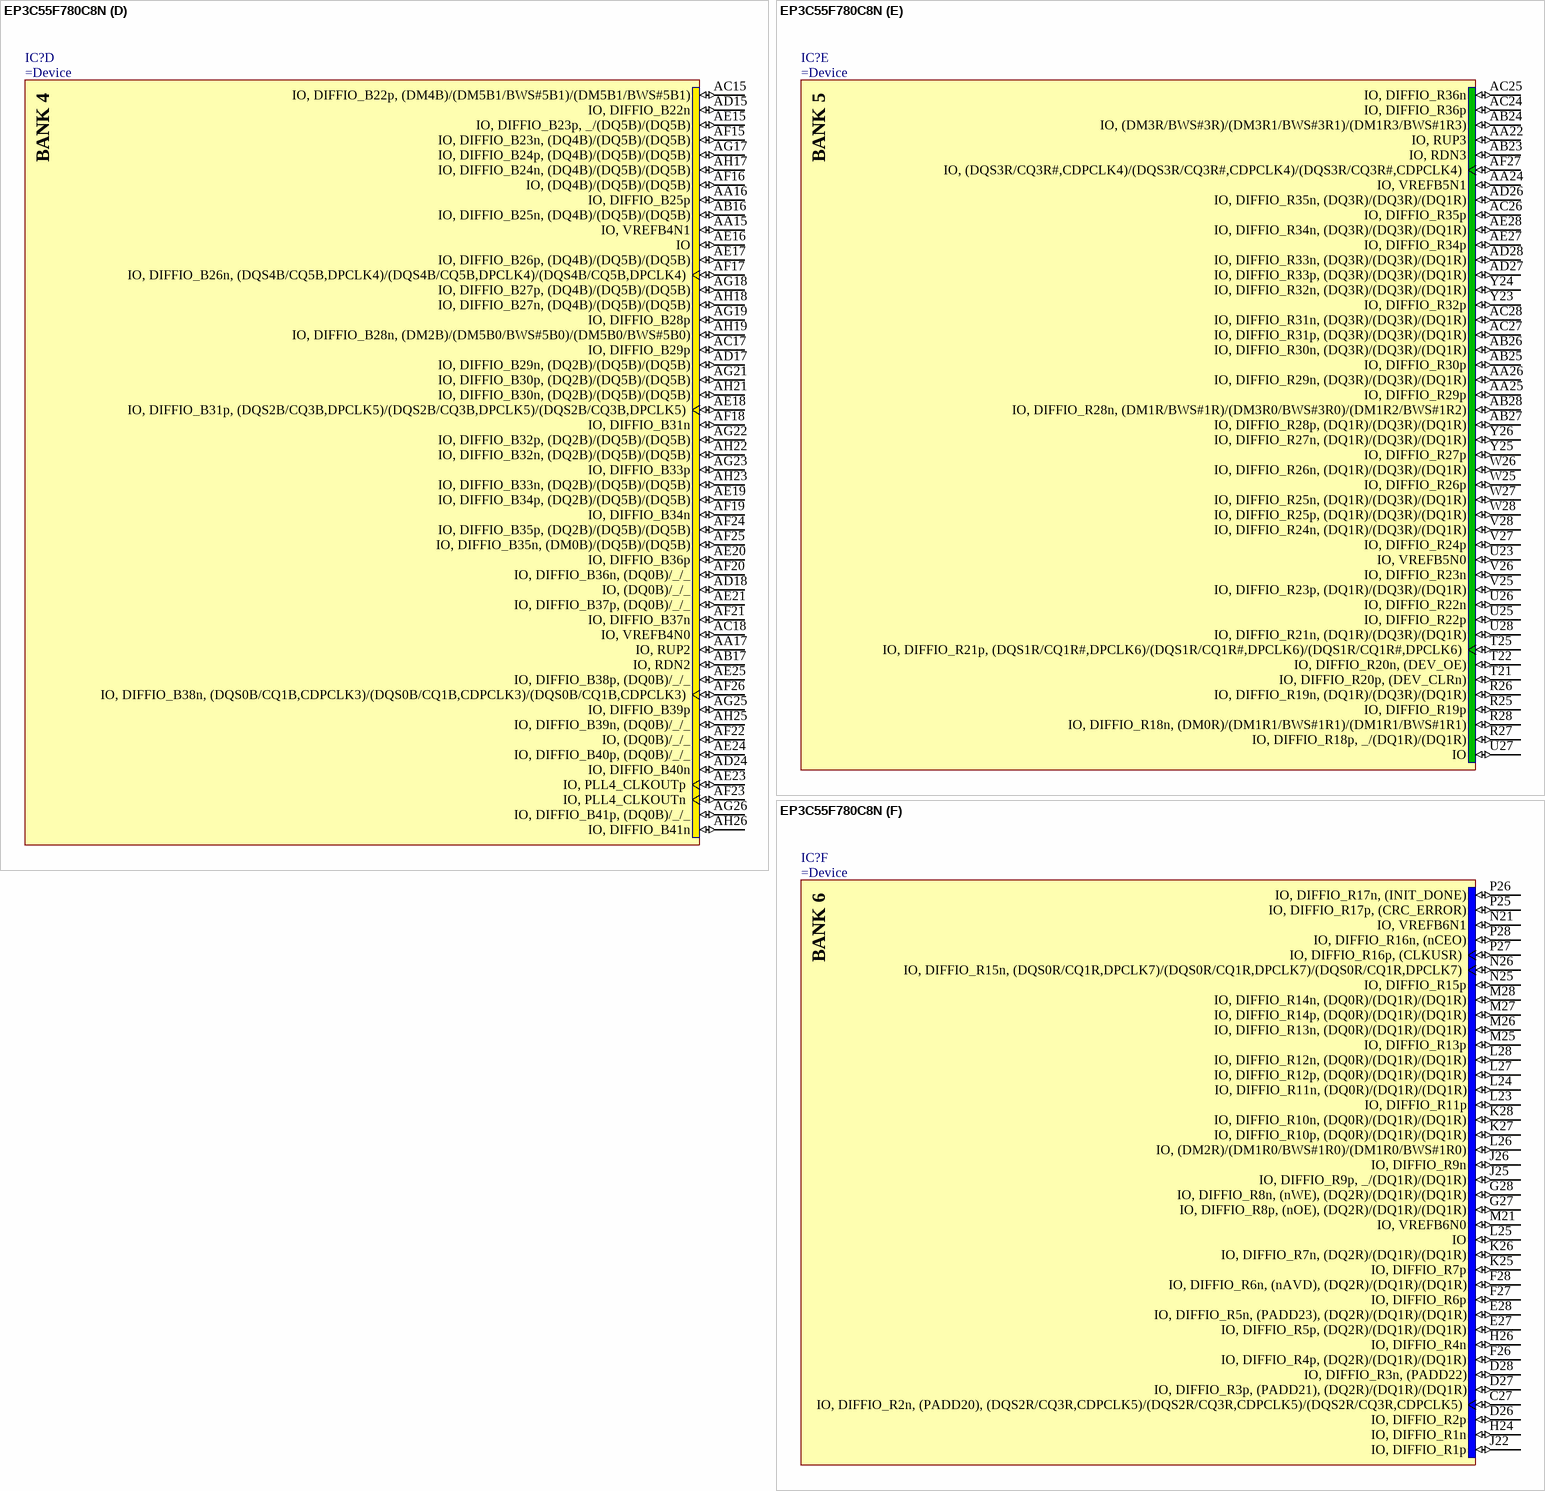
[diagram p59: symbol EP3C55F780C8N]

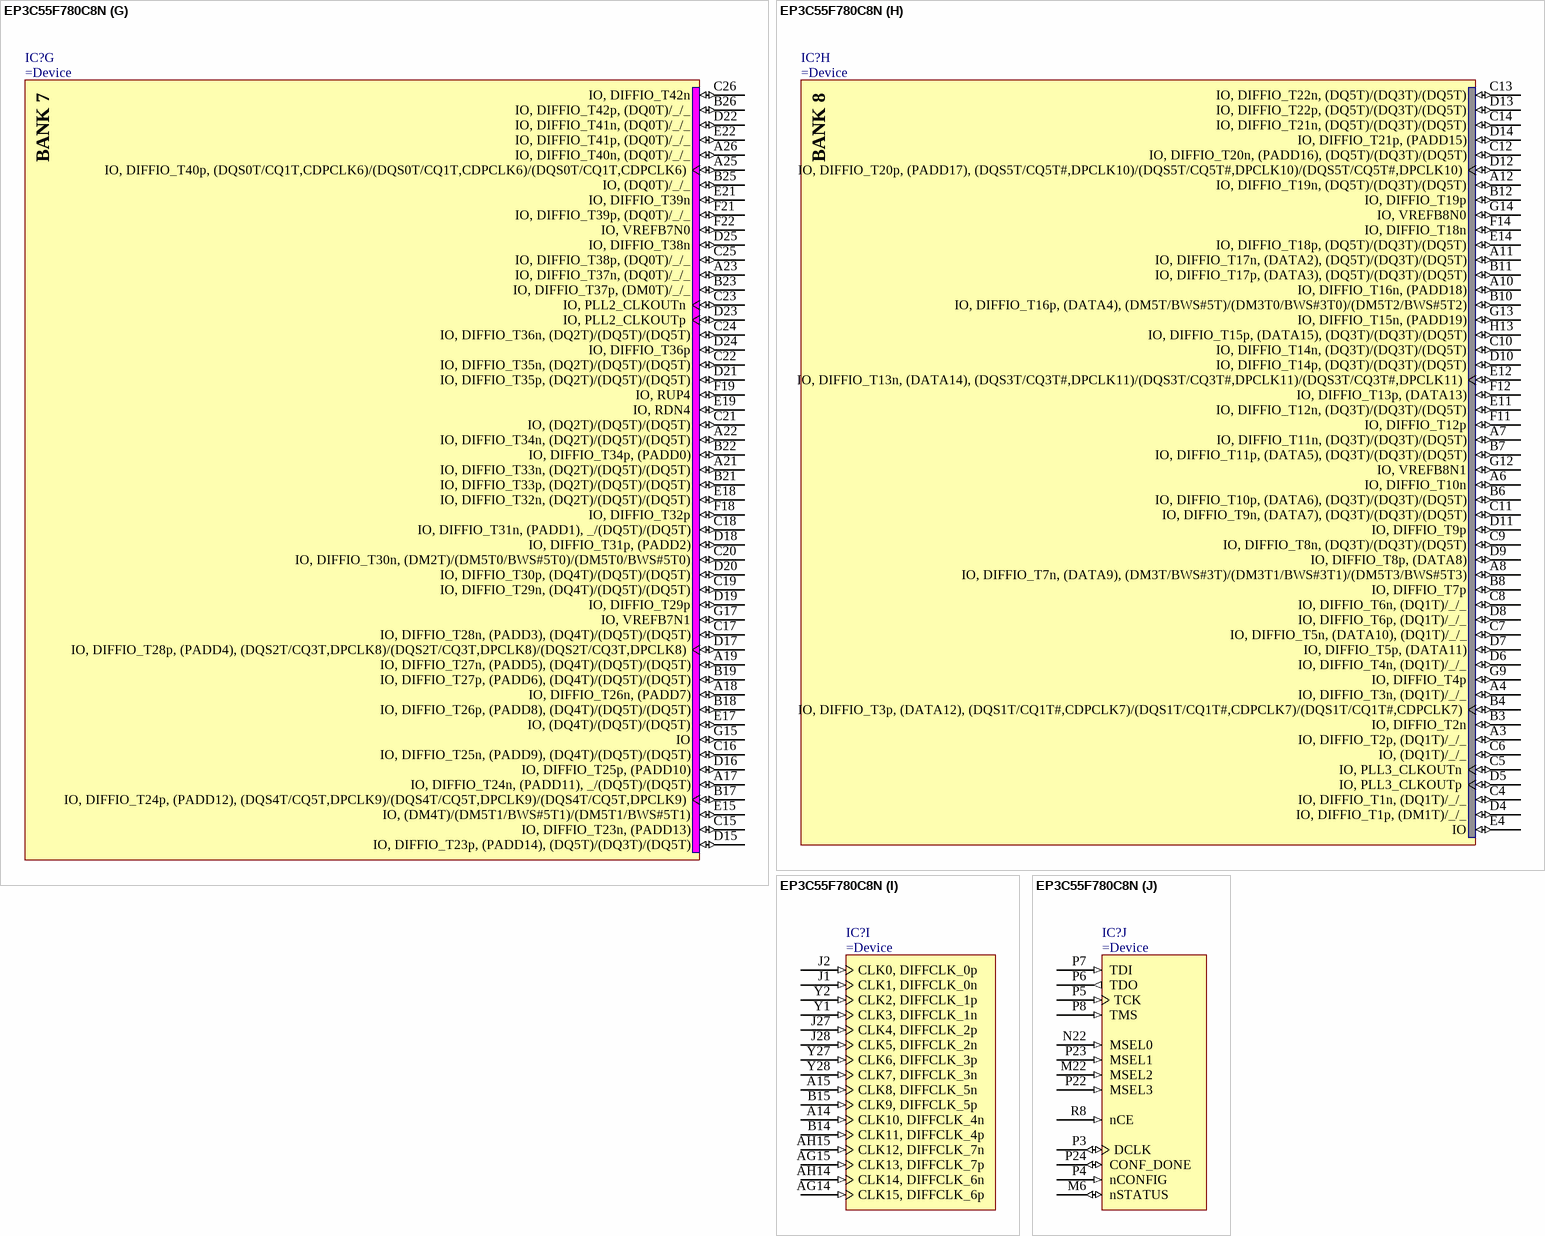
[diagram p60: symbol EP3C55F780C8N]

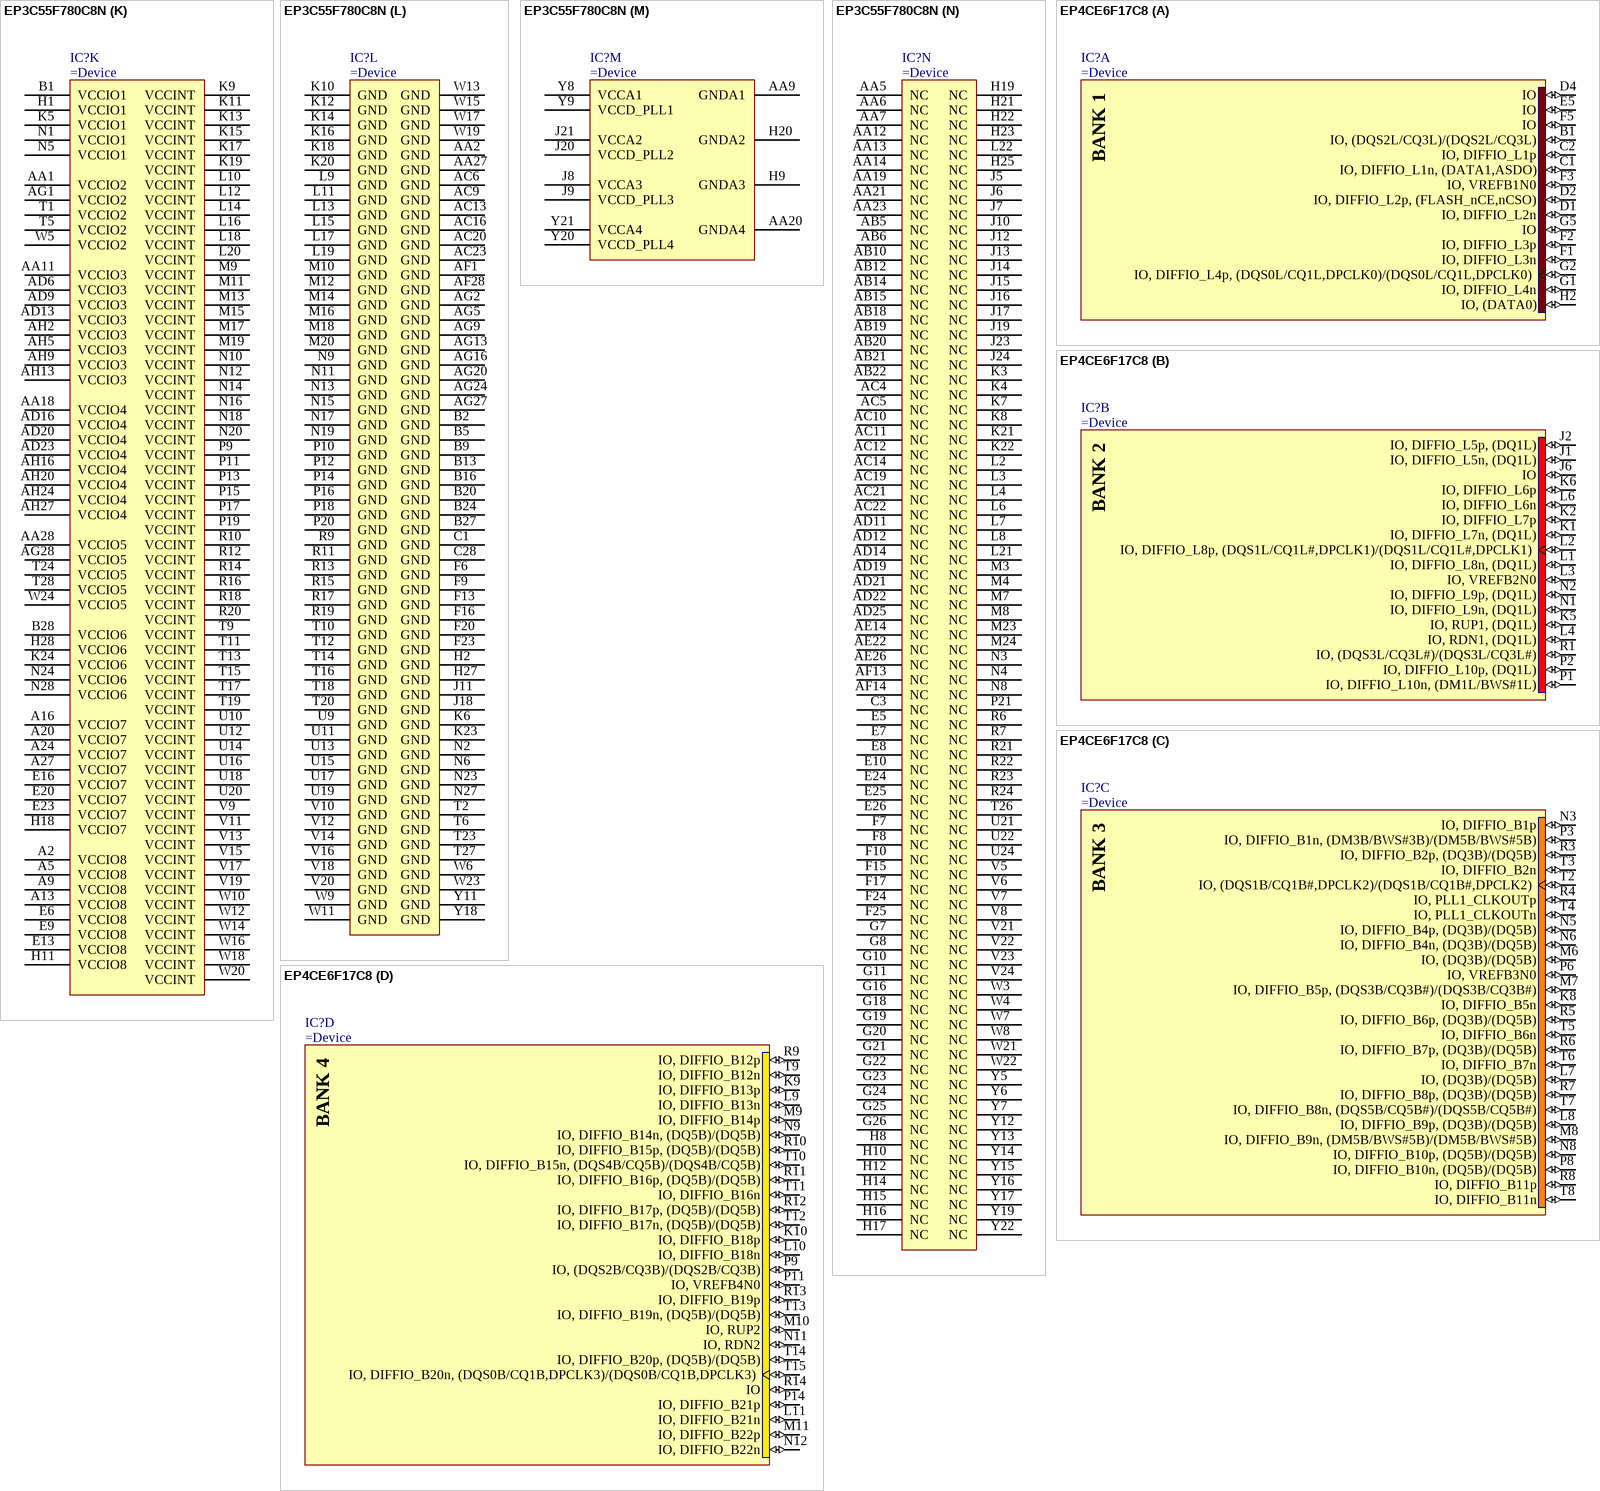
[diagram p61: symbols EP3C55F780C8N to EP4CE6F17C8]